# Altium integrated library QuickLogic pASIC 2.IntLib: 96 symbols (part 6 of 7)
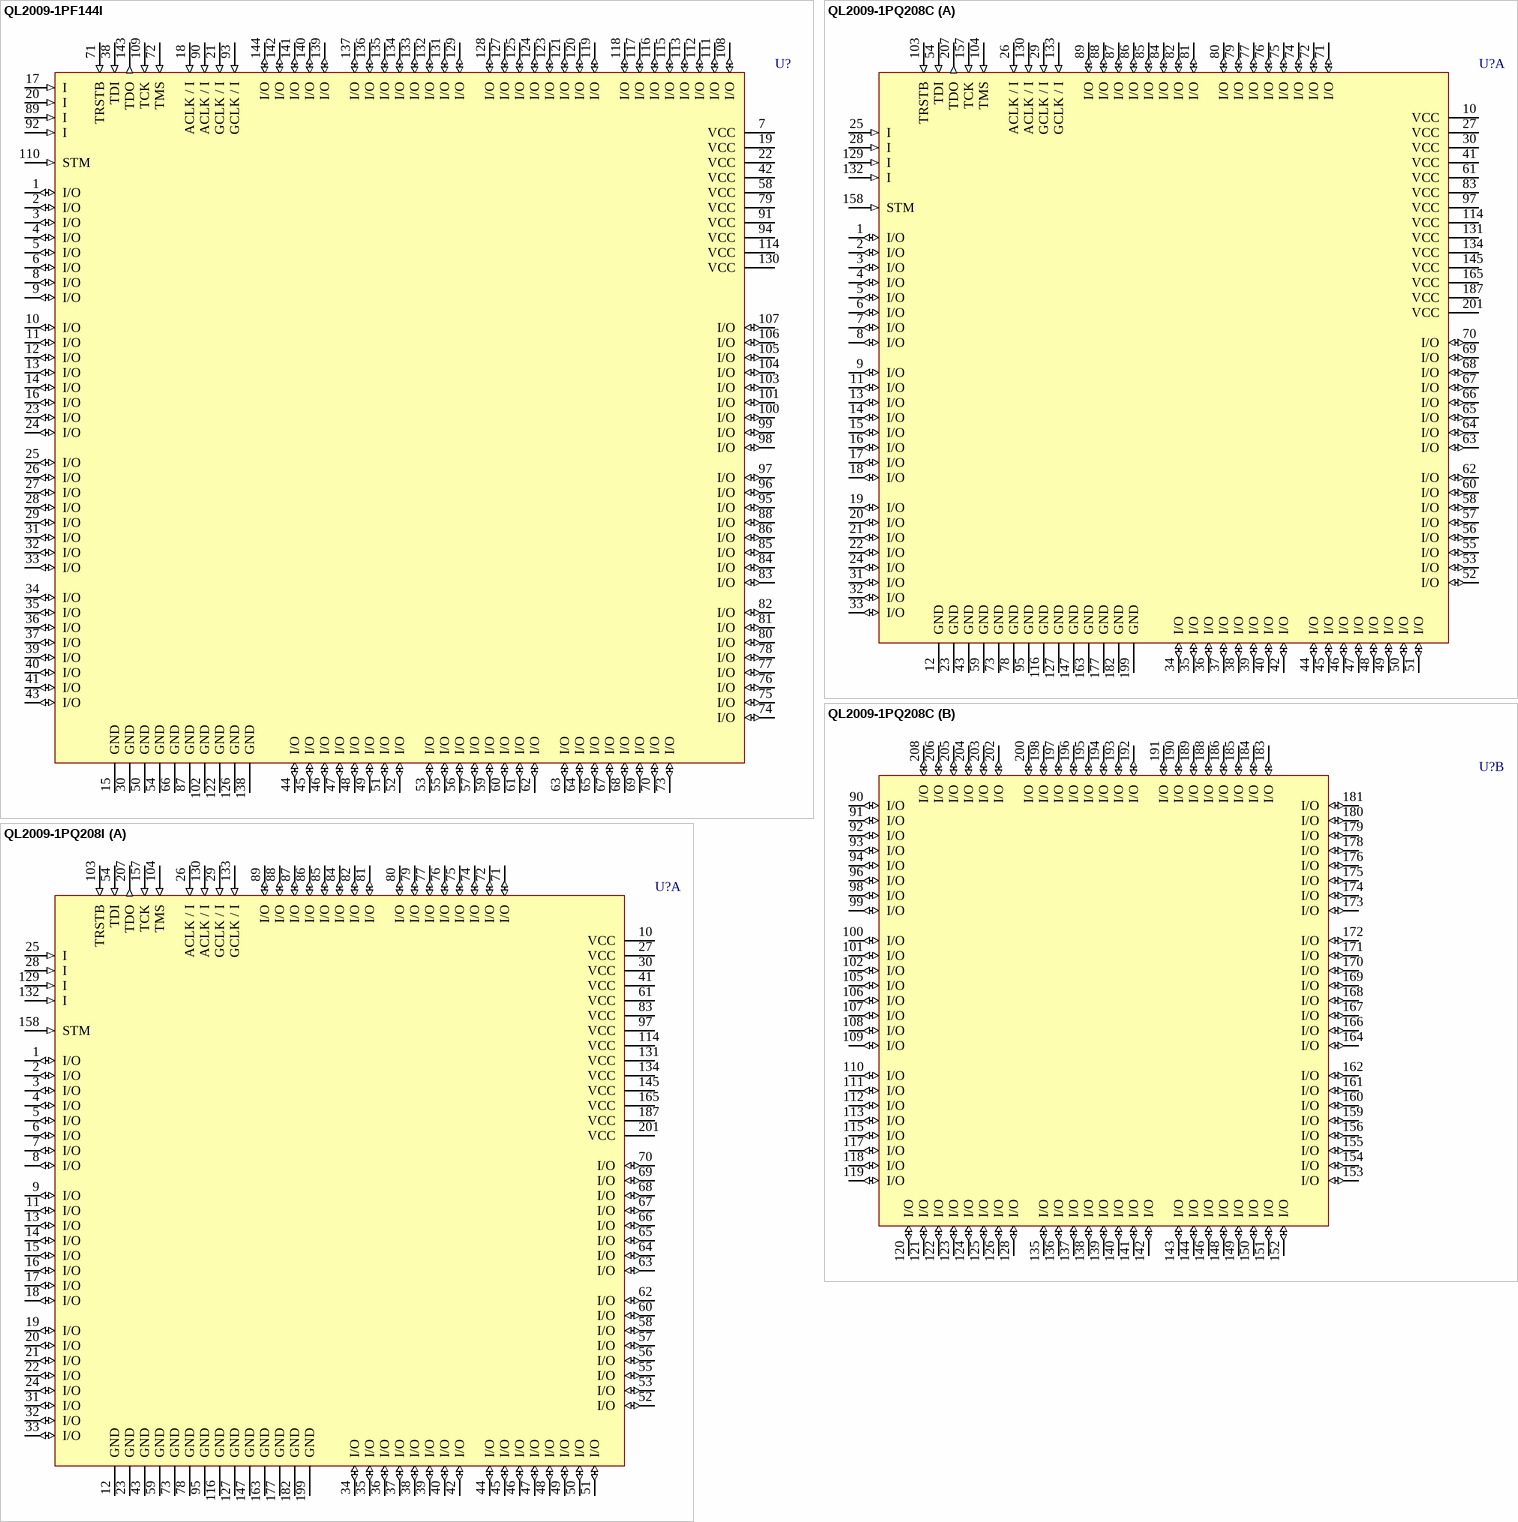
[diagram p47: symbols QL2009-1PF144I to QL2009-1PQ208I]

## QL2009-1PF144I
designator U?
3.3V and 5.0V FPGA, 118 I/Os Max; Published: 21-May-2003; LatestRevisionDate: 13-Apr-2006; LatestRevisionNote: IPC-7351 Footprint Added.; DatasheetVersion: Rev. C; PackageVersion: Feb-1992; PackageReference: PF144; Publisher: Altium Limited; PackageDescription: 144-Pin Thin Plastic Quad Flat Pack 0.5 mm Pitch; ComponentLink1Description: Manufacturer Link; ComponentLink1URL: http://www.quicklogic.com/; ComponentLink2Description: Datasheet; ComponentLink2URL: http://www.quicklogic.com/images/QL2009_DS.pdf; ComponentLink3Description: Discontinuation Notice; ComponentLink3URL: http://www.quicklogic.com/images/EOL_Letter_General.pdf
footprint PF144_N (Thin QFP, 144-Leads, Body 20x20mm, Pitch 0.5mm, IPC Medium Density)
footprint PF144_L (Thin QFP, 144-Leads, Body 20x20mm, Pitch 0.5mm, IPC High Density)
footprint PF144_M (Thin QFP, 144-Leads, Body 20x20mm, Pitch 0.5mm, IPC Low Density)
3D model QL2009-PF144 (144-Pin Thin Plastic Quad Flat Pack 0.5 mm Pitch)
pins: 1 I/O (io), 2 I/O (io), 3 I/O (io), 4 I/O (io), 5 I/O (io), 6 I/O (io), 7 VCC (power), 8 I/O (io), 9 I/O (io), 10 I/O (io), 11 I/O (io), 12 I/O (io), 13 I/O (io), 14 I/O (io), 15 GND (power), 16 I/O (io), 17 I (in), 18 ACLK / I (in), 19 VCC (power), 20 I (in), 21 GCLK / I (in), 22 VCC (power), 23 I/O (io), 24 I/O (io), 25 I/O (io), 26 I/O (io), 27 I/O (io), 28 I/O (io), 29 I/O (io), 30 GND (power), 31 I/O (io), 32 I/O (io), 33 I/O (io), 34 I/O (io), 35 I/O (io), 36 I/O (io), 37 I/O (io), 38 TDI (in), 39 I/O (io), 40 I/O (io), 41 I/O (io), 42 VCC (power), 43 I/O (io), 44 I/O (io), 45 I/O (io), 46 I/O (io), 47 I/O (io), 48 I/O (io), 49 I/O (io), 50 GND (power), 51 I/O (io), 52 I/O (io), 53 I/O (io), 54 GND (power), 55 I/O (io), 56 I/O (io), 57 I/O (io), 58 VCC (power), 59 I/O (io), 60 I/O (io), 61 I/O (io), 62 I/O (io), 63 I/O (io), 64 I/O (io), 65 I/O (io), 66 GND (power), 67 I/O (io), 68 I/O (io), 69 I/O (io), 70 I/O (io), 71 TRSTB (in), 72 TMS (in), 73 I/O (io), 74 I/O (io), 75 I/O (io), 76 I/O (io), 77 I/O (io), 78 I/O (io), 79 VCC (power), 80 I/O (io), 81 I/O (io), 82 I/O (io), 83 I/O (io), 84 I/O (io), 85 I/O (io), 86 I/O (io), 87 GND (power), 88 I/O (io), 89 I (in), 90 ACLK / I (in), 91 VCC (power), 92 I (in), 93 GCLK / I (in), 94 VCC (power), 95 I/O (io), 96 I/O (io), 97 I/O (io), 98 I/O (io), 99 I/O (io), 100 I/O (io), 101 I/O (io), 102 GND (power), 103 I/O (io), 104 I/O (io), 105 I/O (io), 106 I/O (io), 107 I/O (io), 108 I/O (io), 109 TCK (in), 110 STM (in), 111 I/O (io), 112 I/O (io), 113 I/O (io), 114 VCC (power), 115 I/O (io), 116 I/O (io), 117 I/O (io), 118 I/O (io), 119 I/O (io), 120 I/O (io), 121 I/O (io), 122 GND (power), 123 I/O (io), 124 I/O (io), 125 I/O (io), 126 GND (power), 127 I/O (io), 128 I/O (io), 129 I/O (io), 130 VCC (power), 131 I/O (io), 132 I/O (io), 133 I/O (io), 134 I/O (io), 135 I/O (io), 136 I/O (io), 137 I/O (io), 138 GND (power), 139 I/O (io), 140 I/O (io), 141 I/O (io), 142 I/O (io), 143 TDO (out), 144 I/O (io)

## QL2009-1PQ208C
designator U?
3.3V and 5.0V FPGA, 174 I/Os Max; Published: 21-May-2003; LatestRevisionDate: 13-Apr-2006; LatestRevisionNote: IPC-7351 Footprint Added.; DatasheetVersion: Rev. C; PackageVersion: Feb-1995; PackageReference: PQ208; Publisher: Altium Limited; PackageDescription: 208-Pin Shrink Quad Flat Pack 0.5 mm Pitch; ComponentLink1Description: Manufacturer Link; ComponentLink1URL: http://www.quicklogic.com/; ComponentLink2Description: Datasheet; ComponentLink2URL: http://www.quicklogic.com/images/QL2009_DS.pdf; ComponentLink3Description: Discontinuation Notice; ComponentLink3URL: http://www.quicklogic.com/images/EOL_Letter_General.pdf
footprint PQ208_N (Shrink QFP, 208-Leads, Body 28x28mm, Pitch 0.5mm, IPC Medium Density)
footprint PQ208_L (Shrink QFP, 208-Leads, Body 28x28mm, Pitch 0.5mm, IPC High Density)
footprint PQ208_M (Shrink QFP, 208-Leads, Body 28x28mm, Pitch 0.5mm, IPC Low Density)
3D model QL2009-PQ208 (208-Pin Shrink Quad Flat Pack 0.5 mm Pitch)
part A pins: 1 I/O (io), 2 I/O (io), 3 I/O (io), 4 I/O (io), 5 I/O (io), 6 I/O (io), 7 I/O (io), 8 I/O (io), 9 I/O (io), 10 VCC (power), 11 I/O (io), 12 GND (power), 13 I/O (io), 14 I/O (io), 15 I/O (io), 16 I/O (io), 17 I/O (io), 18 I/O (io), 19 I/O (io), 20 I/O (io), 21 I/O (io), 22 I/O (io), 23 GND (power), 24 I/O (io), 25 I (in), 26 ACLK / I (in), 27 VCC (power), 28 I (in), 29 GCLK / I (in), 30 VCC (power), 31 I/O (io), 32 I/O (io), 33 I/O (io), 34 I/O (io), 35 I/O (io), 36 I/O (io), 37 I/O (io), 38 I/O (io), 39 I/O (io), 40 I/O (io), 41 VCC (power), 42 I/O (io), 43 GND (power), 44 I/O (io), 45 I/O (io), 46 I/O (io), 47 I/O (io), 48 I/O (io), 49 I/O (io), 50 I/O (io), 51 I/O (io), 52 I/O (io), 53 I/O (io), 54 TDI (in), 55 I/O (io), 56 I/O (io), 57 I/O (io), 58 I/O (io), 59 GND (power), 60 I/O (io), 61 VCC (power), 62 I/O (io), 63 I/O (io), 64 I/O (io), 65 I/O (io), 66 I/O (io), 67 I/O (io), 68 I/O (io), 69 I/O (io), 70 I/O (io), 71 I/O (io), 72 I/O (io), 73 GND (power), 74 I/O (io), 75 I/O (io), 76 I/O (io), 77 I/O (io), 78 GND (power), 79 I/O (io), 80 I/O (io), 81 I/O (io), 82 I/O (io), 83 VCC (power), 84 I/O (io), 85 I/O (io), 86 I/O (io), 87 I/O (io), 88 I/O (io), 89 I/O (io), 95 GND (power), 97 VCC (power), 103 TRSTB (in), 104 TMS (in), 114 VCC (power), 116 GND (power), 127 GND (power), 129 I (in), 130 ACLK / I (in), 131 VCC (power), 132 I (in), 133 GCLK / I (in), 134 VCC (power), 145 VCC (power), 147 GND (power), 157 TCK (in), 158 STM (in), 163 GND (power), 165 VCC (power), 177 GND (power), 182 GND (power), 187 VCC (power), 199 GND (power), 201 VCC (power), 207 TDO (out)
part B pins: 90 I/O (io), 91 I/O (io), 92 I/O (io), 93 I/O (io), 94 I/O (io), 96 I/O (io), 98 I/O (io), 99 I/O (io), 100 I/O (io), 101 I/O (io), 102 I/O (io), 105 I/O (io), 106 I/O (io), 107 I/O (io), 108 I/O (io), 109 I/O (io), 110 I/O (io), 111 I/O (io), 112 I/O (io), 113 I/O (io), 115 I/O (io), 117 I/O (io), 118 I/O (io), 119 I/O (io), 120 I/O (io), 121 I/O (io), 122 I/O (io), 123 I/O (io), 124 I/O (io), 125 I/O (io), 126 I/O (io), 128 I/O (io), 135 I/O (io), 136 I/O (io), 137 I/O (io), 138 I/O (io), 139 I/O (io), 140 I/O (io), 141 I/O (io), 142 I/O (io), 143 I/O (io), 144 I/O (io), 146 I/O (io), 148 I/O (io), 149 I/O (io), 150 I/O (io), 151 I/O (io), 152 I/O (io), 153 I/O (io), 154 I/O (io), 155 I/O (io), 156 I/O (io), 159 I/O (io), 160 I/O (io), 161 I/O (io), 162 I/O (io), 164 I/O (io), 166 I/O (io), 167 I/O (io), 168 I/O (io), 169 I/O (io), 170 I/O (io), 171 I/O (io), 172 I/O (io), 173 I/O (io), 174 I/O (io), 175 I/O (io), 176 I/O (io), 178 I/O (io), 179 I/O (io), 180 I/O (io), 181 I/O (io), 183 I/O (io), 184 I/O (io), 185 I/O (io), 186 I/O (io), 188 I/O (io), 189 I/O (io), 190 I/O (io), 191 I/O (io), 192 I/O (io), 193 I/O (io), 194 I/O (io), 195 I/O (io), 196 I/O (io), 197 I/O (io), 198 I/O (io), 200 I/O (io), 202 I/O (io), 203 I/O (io), 204 I/O (io), 205 I/O (io), 206 I/O (io), 208 I/O (io)

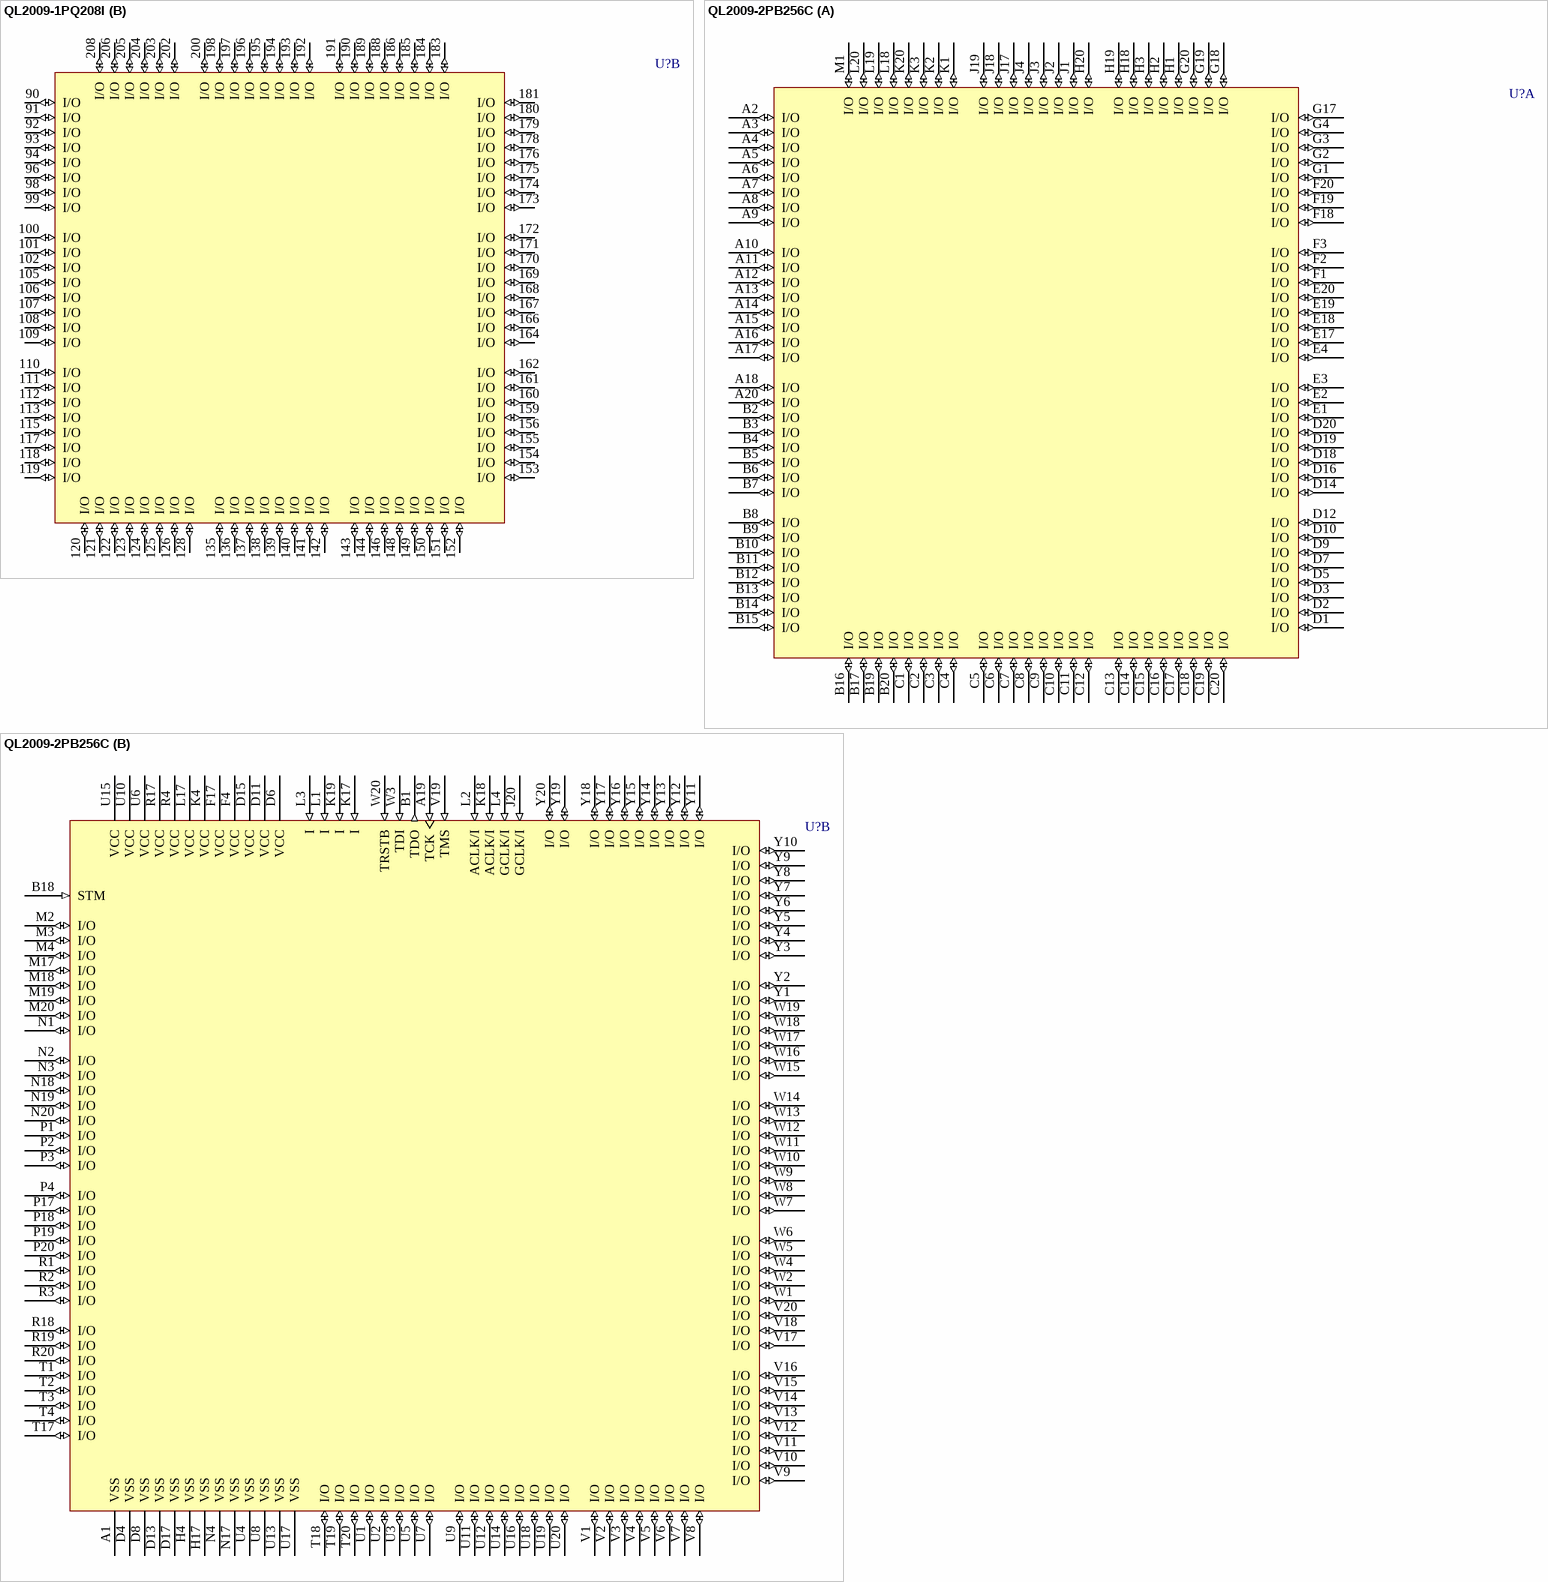
[diagram p34: symbols QL2009-1PQ208I to QL2009-2PB256C]

## QL2009-1PQ208I
designator U?
3.3V and 5.0V FPGA, 174 I/Os Max; Published: 21-May-2003; LatestRevisionDate: 13-Apr-2006; LatestRevisionNote: IPC-7351 Footprint Added.; DatasheetVersion: Rev. C; PackageVersion: Feb-1995; PackageReference: PQ208; Publisher: Altium Limited; PackageDescription: 208-Pin Shrink Quad Flat Pack 0.5 mm Pitch; ComponentLink1Description: Manufacturer Link; ComponentLink1URL: http://www.quicklogic.com/; ComponentLink2Description: Datasheet; ComponentLink2URL: http://www.quicklogic.com/images/QL2009_DS.pdf; ComponentLink3Description: Discontinuation Notice; ComponentLink3URL: http://www.quicklogic.com/images/EOL_Letter_General.pdf
footprint PQ208_N (Shrink QFP, 208-Leads, Body 28x28mm, Pitch 0.5mm, IPC Medium Density)
footprint PQ208_L (Shrink QFP, 208-Leads, Body 28x28mm, Pitch 0.5mm, IPC High Density)
footprint PQ208_M (Shrink QFP, 208-Leads, Body 28x28mm, Pitch 0.5mm, IPC Low Density)
3D model QL2009-PQ208 (208-Pin Shrink Quad Flat Pack 0.5 mm Pitch)
part A pins: 1 I/O (io), 2 I/O (io), 3 I/O (io), 4 I/O (io), 5 I/O (io), 6 I/O (io), 7 I/O (io), 8 I/O (io), 9 I/O (io), 10 VCC (power), 11 I/O (io), 12 GND (power), 13 I/O (io), 14 I/O (io), 15 I/O (io), 16 I/O (io), 17 I/O (io), 18 I/O (io), 19 I/O (io), 20 I/O (io), 21 I/O (io), 22 I/O (io), 23 GND (power), 24 I/O (io), 25 I (in), 26 ACLK / I (in), 27 VCC (power), 28 I (in), 29 GCLK / I (in), 30 VCC (power), 31 I/O (io), 32 I/O (io), 33 I/O (io), 34 I/O (io), 35 I/O (io), 36 I/O (io), 37 I/O (io), 38 I/O (io), 39 I/O (io), 40 I/O (io), 41 VCC (power), 42 I/O (io), 43 GND (power), 44 I/O (io), 45 I/O (io), 46 I/O (io), 47 I/O (io), 48 I/O (io), 49 I/O (io), 50 I/O (io), 51 I/O (io), 52 I/O (io), 53 I/O (io), 54 TDI (in), 55 I/O (io), 56 I/O (io), 57 I/O (io), 58 I/O (io), 59 GND (power), 60 I/O (io), 61 VCC (power), 62 I/O (io), 63 I/O (io), 64 I/O (io), 65 I/O (io), 66 I/O (io), 67 I/O (io), 68 I/O (io), 69 I/O (io), 70 I/O (io), 71 I/O (io), 72 I/O (io), 73 GND (power), 74 I/O (io), 75 I/O (io), 76 I/O (io), 77 I/O (io), 78 GND (power), 79 I/O (io), 80 I/O (io), 81 I/O (io), 82 I/O (io), 83 VCC (power), 84 I/O (io), 85 I/O (io), 86 I/O (io), 87 I/O (io), 88 I/O (io), 89 I/O (io), 95 GND (power), 97 VCC (power), 103 TRSTB (in), 104 TMS (in), 114 VCC (power), 116 GND (power), 127 GND (power), 129 I (in), 130 ACLK / I (in), 131 VCC (power), 132 I (in), 133 GCLK / I (in), 134 VCC (power), 145 VCC (power), 147 GND (power), 157 TCK (in), 158 STM (in), 163 GND (power), 165 VCC (power), 177 GND (power), 182 GND (power), 187 VCC (power), 199 GND (power), 201 VCC (power), 207 TDO (out)
part B pins: 90 I/O (io), 91 I/O (io), 92 I/O (io), 93 I/O (io), 94 I/O (io), 96 I/O (io), 98 I/O (io), 99 I/O (io), 100 I/O (io), 101 I/O (io), 102 I/O (io), 105 I/O (io), 106 I/O (io), 107 I/O (io), 108 I/O (io), 109 I/O (io), 110 I/O (io), 111 I/O (io), 112 I/O (io), 113 I/O (io), 115 I/O (io), 117 I/O (io), 118 I/O (io), 119 I/O (io), 120 I/O (io), 121 I/O (io), 122 I/O (io), 123 I/O (io), 124 I/O (io), 125 I/O (io), 126 I/O (io), 128 I/O (io), 135 I/O (io), 136 I/O (io), 137 I/O (io), 138 I/O (io), 139 I/O (io), 140 I/O (io), 141 I/O (io), 142 I/O (io), 143 I/O (io), 144 I/O (io), 146 I/O (io), 148 I/O (io), 149 I/O (io), 150 I/O (io), 151 I/O (io), 152 I/O (io), 153 I/O (io), 154 I/O (io), 155 I/O (io), 156 I/O (io), 159 I/O (io), 160 I/O (io), 161 I/O (io), 162 I/O (io), 164 I/O (io), 166 I/O (io), 167 I/O (io), 168 I/O (io), 169 I/O (io), 170 I/O (io), 171 I/O (io), 172 I/O (io), 173 I/O (io), 174 I/O (io), 175 I/O (io), 176 I/O (io), 178 I/O (io), 179 I/O (io), 180 I/O (io), 181 I/O (io), 183 I/O (io), 184 I/O (io), 185 I/O (io), 186 I/O (io), 188 I/O (io), 189 I/O (io), 190 I/O (io), 191 I/O (io), 192 I/O (io), 193 I/O (io), 194 I/O (io), 195 I/O (io), 196 I/O (io), 197 I/O (io), 198 I/O (io), 200 I/O (io), 202 I/O (io), 203 I/O (io), 204 I/O (io), 205 I/O (io), 206 I/O (io), 208 I/O (io)

## QL2009-2PB256C
designator U?
3.3V and 5.0V FPGA, 225 I/Os Max; Published: 21-May-2003; LatestRevisionDate: 13-Apr-2006; LatestRevisionNote: IPC-7351 Footprint Added.; DatasheetVersion: Rev. C; PackageVersion: Sep-2002; PackageReference: PB256; Publisher: Altium Limited; PackageDescription: 256-Ball Ball Grid Array 1.27 mm Pitch; ComponentLink1Description: Manufacturer Link; ComponentLink1URL: http://www.quicklogic.com/; ComponentLink2Description: Datasheet; ComponentLink2URL: http://www.quicklogic.com/images/QL2009_DS.pdf; ComponentLink3Description: Discontinuation Notice; ComponentLink3URL: http://www.quicklogic.com/images/EOL_Letter_General.pdf
footprint PB256 (BGA, 256-Leads, Body 27x27mm, Pitch 1.27mm)
3D model QL2009-PB256 (256-Ball Ball Grid Array 1.27 mm Pitch)
part A pins: A2 I/O (io), A3 I/O (io), A4 I/O (io), A5 I/O (io), A6 I/O (io), A7 I/O (io), A8 I/O (io), A9 I/O (io), A10 I/O (io), A11 I/O (io), A12 I/O (io), A13 I/O (io), A14 I/O (io), A15 I/O (io), A16 I/O (io), A17 I/O (io), A18 I/O (io), A20 I/O (io), B2 I/O (io), B3 I/O (io), B4 I/O (io), B5 I/O (io), B6 I/O (io), B7 I/O (io), B8 I/O (io), B9 I/O (io), B10 I/O (io), B11 I/O (io), B12 I/O (io), B13 I/O (io), B14 I/O (io), B15 I/O (io), B16 I/O (io), B17 I/O (io), B19 I/O (io), B20 I/O (io), C1 I/O (io), C2 I/O (io), C3 I/O (io), C4 I/O (io), C5 I/O (io), C6 I/O (io), C7 I/O (io), C8 I/O (io), C9 I/O (io), C10 I/O (io), C11 I/O (io), C12 I/O (io), C13 I/O (io), C14 I/O (io), C15 I/O (io), C16 I/O (io), C17 I/O (io), C18 I/O (io), C19 I/O (io), C20 I/O (io), D1 I/O (io), D2 I/O (io), D3 I/O (io), D5 I/O (io), D7 I/O (io), D9 I/O (io), D10 I/O (io), D12 I/O (io), D14 I/O (io), D16 I/O (io), D18 I/O (io), D19 I/O (io), D20 I/O (io), E1 I/O (io), E2 I/O (io), E3 I/O (io), E4 I/O (io), E17 I/O (io), E18 I/O (io), E19 I/O (io), E20 I/O (io), F1 I/O (io), F2 I/O (io), F3 I/O (io), F18 I/O (io), F19 I/O (io), F20 I/O (io), G1 I/O (io), G2 I/O (io), G3 I/O (io), G4 I/O (io), G17 I/O (io), G18 I/O (io), G19 I/O (io), G20 I/O (io), H1 I/O (io), H2 I/O (io), H3 I/O (io), H18 I/O (io), H19 I/O (io), H20 I/O (io), J1 I/O (io), J2 I/O (io), J3 I/O (io), J4 I/O (io), J17 I/O (io), J18 I/O (io), J19 I/O (io), K1 I/O (io), K2 I/O (io), K3 I/O (io), K20 I/O (io), L18 I/O (io), L19 I/O (io), L20 I/O (io), M1 I/O (io)
part B pins: A1 VSS (power), A19 TCK (in), B1 TDO (out), B18 STM (in), D4 VSS (power), D6 VCC (power), D8 VSS (power), D11 VCC (power), D13 VSS (power), D15 VCC (power), D17 VSS (power), F4 VCC (power), F17 VCC (power), H4 VSS (power), H17 VSS (power), J20 GCLK/I (in), K4 VCC (power), K17 I (in), K18 ACLK/I (in), K19 I (in), L1 I (in), L2 ACLK/I (in), L3 I (in), L4 GCLK/I (in), L17 VCC (power), M2 I/O (io), M3 I/O (io), M4 I/O (io), M17 I/O (io), M18 I/O (io), M19 I/O (io), M20 I/O (io), N1 I/O (io), N2 I/O (io), N3 I/O (io), N4 VSS (power), N17 VSS (power), N18 I/O (io), N19 I/O (io), N20 I/O (io), P1 I/O (io), P2 I/O (io), P3 I/O (io), P4 I/O (io), P17 I/O (io), P18 I/O (io), P19 I/O (io), P20 I/O (io), R1 I/O (io), R2 I/O (io), R3 I/O (io), R4 VCC (power), R17 VCC (power), R18 I/O (io), R19 I/O (io), R20 I/O (io), T1 I/O (io), T2 I/O (io), T3 I/O (io), T4 I/O (io), T17 I/O (io), T18 I/O (io), T19 I/O (io), T20 I/O (io), U1 I/O (io), U2 I/O (io), U3 I/O (io), U4 VSS (power), U5 I/O (io), U6 VCC (power), U7 I/O (io), U8 VSS (power), U9 I/O (io), U10 VCC (power), U11 I/O (io), U12 I/O (io), U13 VSS (power), U14 I/O (io), U15 VCC (power), U16 I/O (io), U17 VSS (power), U18 I/O (io), U19 I/O (io), U20 I/O (io), V1 I/O (io), V2 I/O (io), V3 I/O (io), V4 I/O (io), V5 I/O (io), V6 I/O (io), V7 I/O (io), V8 I/O (io), V9 I/O (io), V10 I/O (io), V11 I/O (io), V12 I/O (io), V13 I/O (io), V14 I/O (io), V15 I/O (io), V16 I/O (io), V17 I/O (io), V18 I/O (io), V19 TMS (in), V20 I/O (io), W1 I/O (io), W2 I/O (io), W3 TDI (in), W4 I/O (io), W5 I/O (io), W6 I/O (io), W7 I/O (io), W8 I/O (io), W9 I/O (io), W10 I/O (io), W11 I/O (io), W12 I/O (io), W13 I/O (io), W14 I/O (io), W15 I/O (io), W16 I/O (io), W17 I/O (io), W18 I/O (io), W19 I/O (io), W20 TRSTB (in), Y1 I/O (io), Y2 I/O (io), Y3 I/O (io), Y4 I/O (io), Y5 I/O (io), Y6 I/O (io), Y7 I/O (io), Y8 I/O (io), Y9 I/O (io), Y10 I/O (io), Y11 I/O (io), Y12 I/O (io), Y13 I/O (io), Y14 I/O (io), Y15 I/O (io), Y16 I/O (io), Y17 I/O (io), Y18 I/O (io), Y19 I/O (io), Y20 I/O (io)

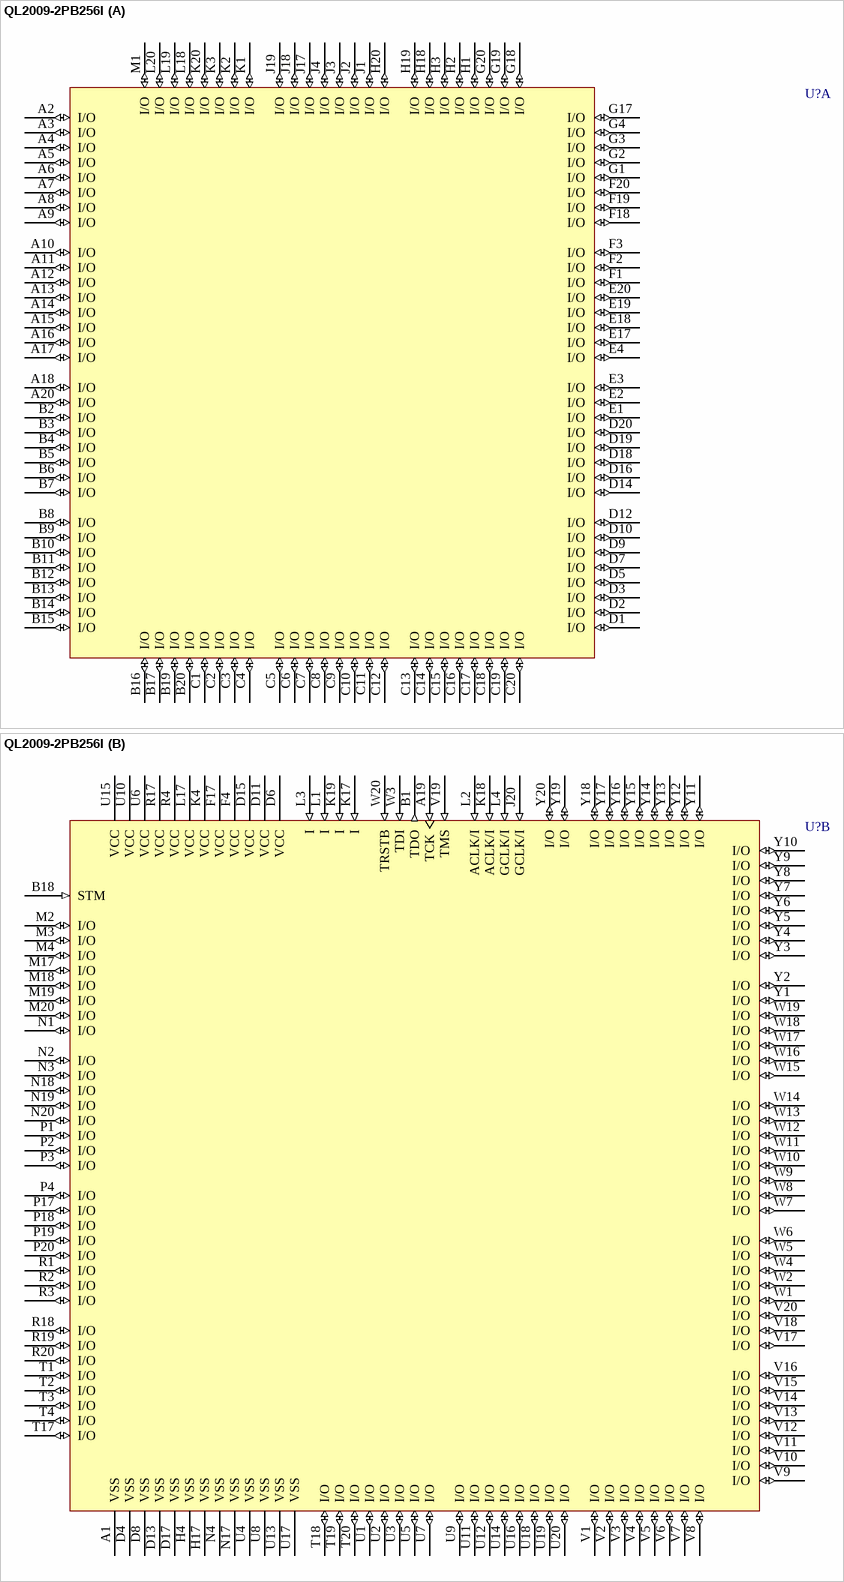
[diagram p35: symbol QL2009-2PB256I]

## QL2009-2PB256I
designator U?
3.3V and 5.0V FPGA, 225 I/Os Max; Published: 21-May-2003; LatestRevisionDate: 13-Apr-2006; LatestRevisionNote: IPC-7351 Footprint Added.; DatasheetVersion: Rev. C; PackageVersion: Sep-2002; PackageReference: PB256; Publisher: Altium Limited; PackageDescription: 256-Ball Ball Grid Array 1.27 mm Pitch; ComponentLink1Description: Manufacturer Link; ComponentLink1URL: http://www.quicklogic.com/; ComponentLink2Description: Datasheet; ComponentLink2URL: http://www.quicklogic.com/images/QL2009_DS.pdf; ComponentLink3Description: Discontinuation Notice; ComponentLink3URL: http://www.quicklogic.com/images/EOL_Letter_General.pdf
footprint PB256 (BGA, 256-Leads, Body 27x27mm, Pitch 1.27mm)
3D model QL2009-PB256 (256-Ball Ball Grid Array 1.27 mm Pitch)
part A pins: A2 I/O (io), A3 I/O (io), A4 I/O (io), A5 I/O (io), A6 I/O (io), A7 I/O (io), A8 I/O (io), A9 I/O (io), A10 I/O (io), A11 I/O (io), A12 I/O (io), A13 I/O (io), A14 I/O (io), A15 I/O (io), A16 I/O (io), A17 I/O (io), A18 I/O (io), A20 I/O (io), B2 I/O (io), B3 I/O (io), B4 I/O (io), B5 I/O (io), B6 I/O (io), B7 I/O (io), B8 I/O (io), B9 I/O (io), B10 I/O (io), B11 I/O (io), B12 I/O (io), B13 I/O (io), B14 I/O (io), B15 I/O (io), B16 I/O (io), B17 I/O (io), B19 I/O (io), B20 I/O (io), C1 I/O (io), C2 I/O (io), C3 I/O (io), C4 I/O (io), C5 I/O (io), C6 I/O (io), C7 I/O (io), C8 I/O (io), C9 I/O (io), C10 I/O (io), C11 I/O (io), C12 I/O (io), C13 I/O (io), C14 I/O (io), C15 I/O (io), C16 I/O (io), C17 I/O (io), C18 I/O (io), C19 I/O (io), C20 I/O (io), D1 I/O (io), D2 I/O (io), D3 I/O (io), D5 I/O (io), D7 I/O (io), D9 I/O (io), D10 I/O (io), D12 I/O (io), D14 I/O (io), D16 I/O (io), D18 I/O (io), D19 I/O (io), D20 I/O (io), E1 I/O (io), E2 I/O (io), E3 I/O (io), E4 I/O (io), E17 I/O (io), E18 I/O (io), E19 I/O (io), E20 I/O (io), F1 I/O (io), F2 I/O (io), F3 I/O (io), F18 I/O (io), F19 I/O (io), F20 I/O (io), G1 I/O (io), G2 I/O (io), G3 I/O (io), G4 I/O (io), G17 I/O (io), G18 I/O (io), G19 I/O (io), G20 I/O (io), H1 I/O (io), H2 I/O (io), H3 I/O (io), H18 I/O (io), H19 I/O (io), H20 I/O (io), J1 I/O (io), J2 I/O (io), J3 I/O (io), J4 I/O (io), J17 I/O (io), J18 I/O (io), J19 I/O (io), K1 I/O (io), K2 I/O (io), K3 I/O (io), K20 I/O (io), L18 I/O (io), L19 I/O (io), L20 I/O (io), M1 I/O (io)
part B pins: A1 VSS (power), A19 TCK (in), B1 TDO (out), B18 STM (in), D4 VSS (power), D6 VCC (power), D8 VSS (power), D11 VCC (power), D13 VSS (power), D15 VCC (power), D17 VSS (power), F4 VCC (power), F17 VCC (power), H4 VSS (power), H17 VSS (power), J20 GCLK/I (in), K4 VCC (power), K17 I (in), K18 ACLK/I (in), K19 I (in), L1 I (in), L2 ACLK/I (in), L3 I (in), L4 GCLK/I (in), L17 VCC (power), M2 I/O (io), M3 I/O (io), M4 I/O (io), M17 I/O (io), M18 I/O (io), M19 I/O (io), M20 I/O (io), N1 I/O (io), N2 I/O (io), N3 I/O (io), N4 VSS (power), N17 VSS (power), N18 I/O (io), N19 I/O (io), N20 I/O (io), P1 I/O (io), P2 I/O (io), P3 I/O (io), P4 I/O (io), P17 I/O (io), P18 I/O (io), P19 I/O (io), P20 I/O (io), R1 I/O (io), R2 I/O (io), R3 I/O (io), R4 VCC (power), R17 VCC (power), R18 I/O (io), R19 I/O (io), R20 I/O (io), T1 I/O (io), T2 I/O (io), T3 I/O (io), T4 I/O (io), T17 I/O (io), T18 I/O (io), T19 I/O (io), T20 I/O (io), U1 I/O (io), U2 I/O (io), U3 I/O (io), U4 VSS (power), U5 I/O (io), U6 VCC (power), U7 I/O (io), U8 VSS (power), U9 I/O (io), U10 VCC (power), U11 I/O (io), U12 I/O (io), U13 VSS (power), U14 I/O (io), U15 VCC (power), U16 I/O (io), U17 VSS (power), U18 I/O (io), U19 I/O (io), U20 I/O (io), V1 I/O (io), V2 I/O (io), V3 I/O (io), V4 I/O (io), V5 I/O (io), V6 I/O (io), V7 I/O (io), V8 I/O (io), V9 I/O (io), V10 I/O (io), V11 I/O (io), V12 I/O (io), V13 I/O (io), V14 I/O (io), V15 I/O (io), V16 I/O (io), V17 I/O (io), V18 I/O (io), V19 TMS (in), V20 I/O (io), W1 I/O (io), W2 I/O (io), W3 TDI (in), W4 I/O (io), W5 I/O (io), W6 I/O (io), W7 I/O (io), W8 I/O (io), W9 I/O (io), W10 I/O (io), W11 I/O (io), W12 I/O (io), W13 I/O (io), W14 I/O (io), W15 I/O (io), W16 I/O (io), W17 I/O (io), W18 I/O (io), W19 I/O (io), W20 TRSTB (in), Y1 I/O (io), Y2 I/O (io), Y3 I/O (io), Y4 I/O (io), Y5 I/O (io), Y6 I/O (io), Y7 I/O (io), Y8 I/O (io), Y9 I/O (io), Y10 I/O (io), Y11 I/O (io), Y12 I/O (io), Y13 I/O (io), Y14 I/O (io), Y15 I/O (io), Y16 I/O (io), Y17 I/O (io), Y18 I/O (io), Y19 I/O (io), Y20 I/O (io)

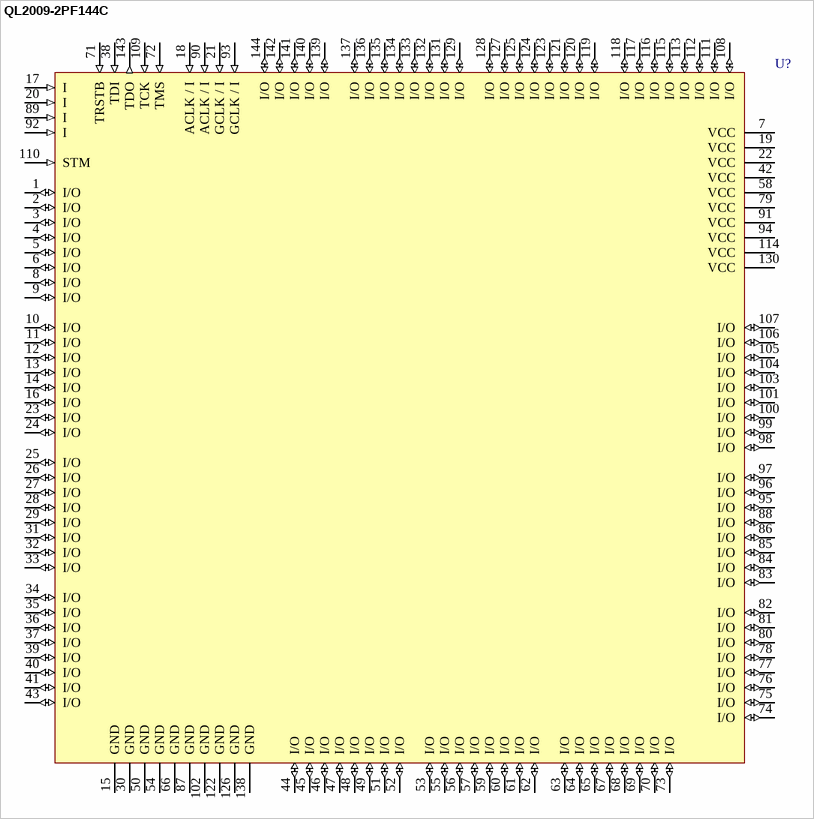
[diagram p36: symbol QL2009-2PF144C]

## QL2009-2PF144C
designator U?
3.3V and 5.0V FPGA, 118 I/Os Max; Published: 21-May-2003; LatestRevisionDate: 13-Apr-2006; LatestRevisionNote: IPC-7351 Footprint Added.; DatasheetVersion: Rev. C; PackageVersion: Feb-1992; PackageReference: PF144; Publisher: Altium Limited; PackageDescription: 144-Pin Thin Plastic Quad Flat Pack 0.5 mm Pitch; ComponentLink1Description: Manufacturer Link; ComponentLink1URL: http://www.quicklogic.com/; ComponentLink2Description: Datasheet; ComponentLink2URL: http://www.quicklogic.com/images/QL2009_DS.pdf; ComponentLink3Description: Discontinuation Notice; ComponentLink3URL: http://www.quicklogic.com/images/EOL_Letter_General.pdf
footprint PF144_N (Thin QFP, 144-Leads, Body 20x20mm, Pitch 0.5mm, IPC Medium Density)
footprint PF144_L (Thin QFP, 144-Leads, Body 20x20mm, Pitch 0.5mm, IPC High Density)
footprint PF144_M (Thin QFP, 144-Leads, Body 20x20mm, Pitch 0.5mm, IPC Low Density)
3D model QL2009-PF144 (144-Pin Thin Plastic Quad Flat Pack 0.5 mm Pitch)
pins: 1 I/O (io), 2 I/O (io), 3 I/O (io), 4 I/O (io), 5 I/O (io), 6 I/O (io), 7 VCC (power), 8 I/O (io), 9 I/O (io), 10 I/O (io), 11 I/O (io), 12 I/O (io), 13 I/O (io), 14 I/O (io), 15 GND (power), 16 I/O (io), 17 I (in), 18 ACLK / I (in), 19 VCC (power), 20 I (in), 21 GCLK / I (in), 22 VCC (power), 23 I/O (io), 24 I/O (io), 25 I/O (io), 26 I/O (io), 27 I/O (io), 28 I/O (io), 29 I/O (io), 30 GND (power), 31 I/O (io), 32 I/O (io), 33 I/O (io), 34 I/O (io), 35 I/O (io), 36 I/O (io), 37 I/O (io), 38 TDI (in), 39 I/O (io), 40 I/O (io), 41 I/O (io), 42 VCC (power), 43 I/O (io), 44 I/O (io), 45 I/O (io), 46 I/O (io), 47 I/O (io), 48 I/O (io), 49 I/O (io), 50 GND (power), 51 I/O (io), 52 I/O (io), 53 I/O (io), 54 GND (power), 55 I/O (io), 56 I/O (io), 57 I/O (io), 58 VCC (power), 59 I/O (io), 60 I/O (io), 61 I/O (io), 62 I/O (io), 63 I/O (io), 64 I/O (io), 65 I/O (io), 66 GND (power), 67 I/O (io), 68 I/O (io), 69 I/O (io), 70 I/O (io), 71 TRSTB (in), 72 TMS (in), 73 I/O (io), 74 I/O (io), 75 I/O (io), 76 I/O (io), 77 I/O (io), 78 I/O (io), 79 VCC (power), 80 I/O (io), 81 I/O (io), 82 I/O (io), 83 I/O (io), 84 I/O (io), 85 I/O (io), 86 I/O (io), 87 GND (power), 88 I/O (io), 89 I (in), 90 ACLK / I (in), 91 VCC (power), 92 I (in), 93 GCLK / I (in), 94 VCC (power), 95 I/O (io), 96 I/O (io), 97 I/O (io), 98 I/O (io), 99 I/O (io), 100 I/O (io), 101 I/O (io), 102 GND (power), 103 I/O (io), 104 I/O (io), 105 I/O (io), 106 I/O (io), 107 I/O (io), 108 I/O (io), 109 TCK (in), 110 STM (in), 111 I/O (io), 112 I/O (io), 113 I/O (io), 114 VCC (power), 115 I/O (io), 116 I/O (io), 117 I/O (io), 118 I/O (io), 119 I/O (io), 120 I/O (io), 121 I/O (io), 122 GND (power), 123 I/O (io), 124 I/O (io), 125 I/O (io), 126 GND (power), 127 I/O (io), 128 I/O (io), 129 I/O (io), 130 VCC (power), 131 I/O (io), 132 I/O (io), 133 I/O (io), 134 I/O (io), 135 I/O (io), 136 I/O (io), 137 I/O (io), 138 GND (power), 139 I/O (io), 140 I/O (io), 141 I/O (io), 142 I/O (io), 143 TDO (out), 144 I/O (io)

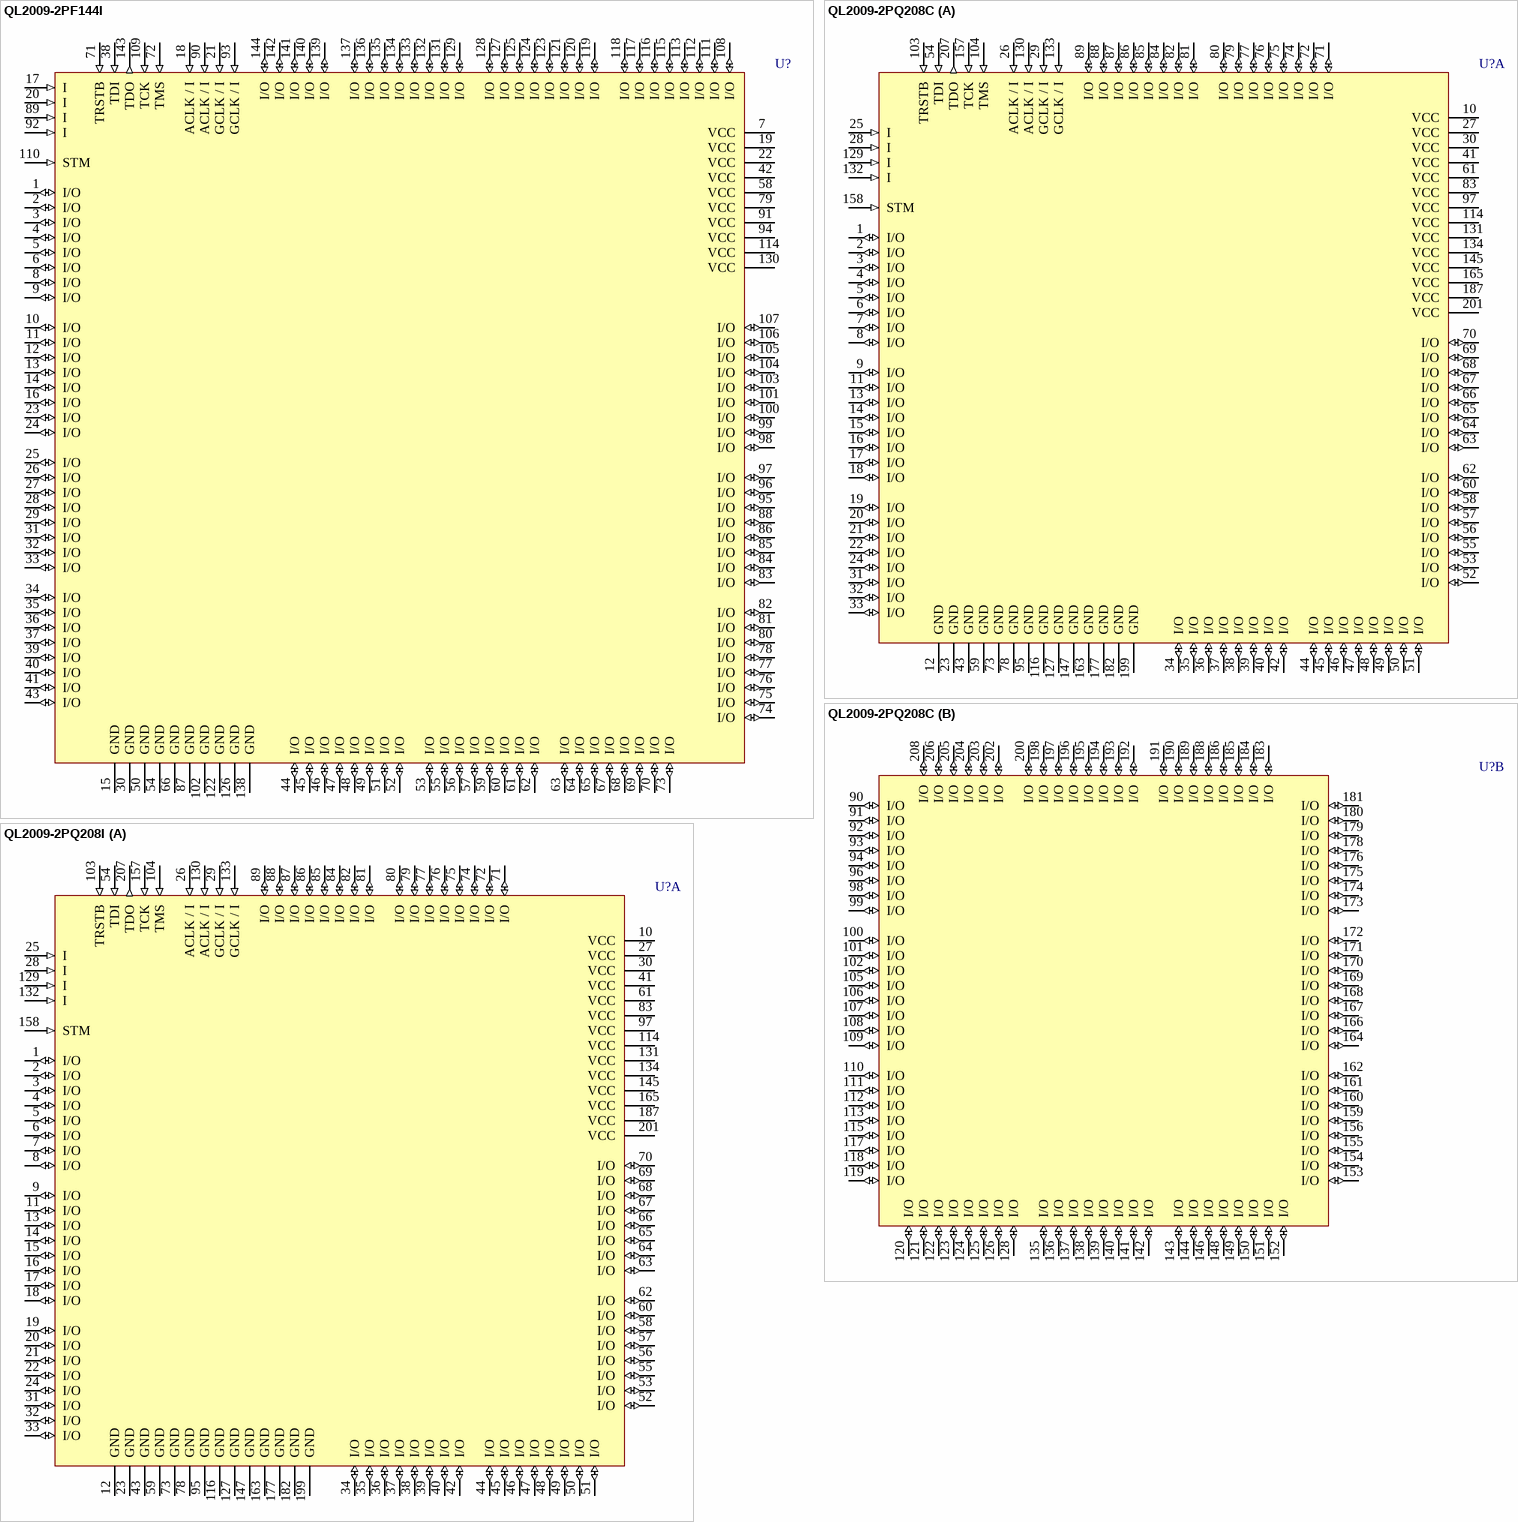
[diagram p37: symbols QL2009-2PF144I to QL2009-2PQ208I]

## QL2009-2PF144I
designator U?
3.3V and 5.0V FPGA, 118 I/Os Max; Published: 21-May-2003; LatestRevisionDate: 13-Apr-2006; LatestRevisionNote: IPC-7351 Footprint Added.; DatasheetVersion: Rev. C; PackageVersion: Feb-1992; PackageReference: PF144; Publisher: Altium Limited; PackageDescription: 144-Pin Thin Plastic Quad Flat Pack 0.5 mm Pitch; ComponentLink1Description: Manufacturer Link; ComponentLink1URL: http://www.quicklogic.com/; ComponentLink2Description: Datasheet; ComponentLink2URL: http://www.quicklogic.com/images/QL2009_DS.pdf; ComponentLink3Description: Discontinuation Notice; ComponentLink3URL: http://www.quicklogic.com/images/EOL_Letter_General.pdf
footprint PF144_N (Thin QFP, 144-Leads, Body 20x20mm, Pitch 0.5mm, IPC Medium Density)
footprint PF144_L (Thin QFP, 144-Leads, Body 20x20mm, Pitch 0.5mm, IPC High Density)
footprint PF144_M (Thin QFP, 144-Leads, Body 20x20mm, Pitch 0.5mm, IPC Low Density)
3D model QL2009-PF144 (144-Pin Thin Plastic Quad Flat Pack 0.5 mm Pitch)
pins: 1 I/O (io), 2 I/O (io), 3 I/O (io), 4 I/O (io), 5 I/O (io), 6 I/O (io), 7 VCC (power), 8 I/O (io), 9 I/O (io), 10 I/O (io), 11 I/O (io), 12 I/O (io), 13 I/O (io), 14 I/O (io), 15 GND (power), 16 I/O (io), 17 I (in), 18 ACLK / I (in), 19 VCC (power), 20 I (in), 21 GCLK / I (in), 22 VCC (power), 23 I/O (io), 24 I/O (io), 25 I/O (io), 26 I/O (io), 27 I/O (io), 28 I/O (io), 29 I/O (io), 30 GND (power), 31 I/O (io), 32 I/O (io), 33 I/O (io), 34 I/O (io), 35 I/O (io), 36 I/O (io), 37 I/O (io), 38 TDI (in), 39 I/O (io), 40 I/O (io), 41 I/O (io), 42 VCC (power), 43 I/O (io), 44 I/O (io), 45 I/O (io), 46 I/O (io), 47 I/O (io), 48 I/O (io), 49 I/O (io), 50 GND (power), 51 I/O (io), 52 I/O (io), 53 I/O (io), 54 GND (power), 55 I/O (io), 56 I/O (io), 57 I/O (io), 58 VCC (power), 59 I/O (io), 60 I/O (io), 61 I/O (io), 62 I/O (io), 63 I/O (io), 64 I/O (io), 65 I/O (io), 66 GND (power), 67 I/O (io), 68 I/O (io), 69 I/O (io), 70 I/O (io), 71 TRSTB (in), 72 TMS (in), 73 I/O (io), 74 I/O (io), 75 I/O (io), 76 I/O (io), 77 I/O (io), 78 I/O (io), 79 VCC (power), 80 I/O (io), 81 I/O (io), 82 I/O (io), 83 I/O (io), 84 I/O (io), 85 I/O (io), 86 I/O (io), 87 GND (power), 88 I/O (io), 89 I (in), 90 ACLK / I (in), 91 VCC (power), 92 I (in), 93 GCLK / I (in), 94 VCC (power), 95 I/O (io), 96 I/O (io), 97 I/O (io), 98 I/O (io), 99 I/O (io), 100 I/O (io), 101 I/O (io), 102 GND (power), 103 I/O (io), 104 I/O (io), 105 I/O (io), 106 I/O (io), 107 I/O (io), 108 I/O (io), 109 TCK (in), 110 STM (in), 111 I/O (io), 112 I/O (io), 113 I/O (io), 114 VCC (power), 115 I/O (io), 116 I/O (io), 117 I/O (io), 118 I/O (io), 119 I/O (io), 120 I/O (io), 121 I/O (io), 122 GND (power), 123 I/O (io), 124 I/O (io), 125 I/O (io), 126 GND (power), 127 I/O (io), 128 I/O (io), 129 I/O (io), 130 VCC (power), 131 I/O (io), 132 I/O (io), 133 I/O (io), 134 I/O (io), 135 I/O (io), 136 I/O (io), 137 I/O (io), 138 GND (power), 139 I/O (io), 140 I/O (io), 141 I/O (io), 142 I/O (io), 143 TDO (out), 144 I/O (io)

## QL2009-2PQ208C
designator U?
3.3V and 5.0V FPGA, 174 I/Os Max; Published: 21-May-2003; LatestRevisionDate: 13-Apr-2006; LatestRevisionNote: IPC-7351 Footprint Added.; DatasheetVersion: Rev. C; PackageVersion: Feb-1995; PackageReference: PQ208; Publisher: Altium Limited; PackageDescription: 208-Pin Shrink Quad Flat Pack 0.5 mm Pitch; ComponentLink1Description: Manufacturer Link; ComponentLink1URL: http://www.quicklogic.com/; ComponentLink2Description: Datasheet; ComponentLink2URL: http://www.quicklogic.com/images/QL2009_DS.pdf; ComponentLink3Description: Discontinuation Notice; ComponentLink3URL: http://www.quicklogic.com/images/EOL_Letter_General.pdf
footprint PQ208_N (Shrink QFP, 208-Leads, Body 28x28mm, Pitch 0.5mm, IPC Medium Density)
footprint PQ208_L (Shrink QFP, 208-Leads, Body 28x28mm, Pitch 0.5mm, IPC High Density)
footprint PQ208_M (Shrink QFP, 208-Leads, Body 28x28mm, Pitch 0.5mm, IPC Low Density)
3D model QL2009-PQ208 (208-Pin Shrink Quad Flat Pack 0.5 mm Pitch)
part A pins: 1 I/O (io), 2 I/O (io), 3 I/O (io), 4 I/O (io), 5 I/O (io), 6 I/O (io), 7 I/O (io), 8 I/O (io), 9 I/O (io), 10 VCC (power), 11 I/O (io), 12 GND (power), 13 I/O (io), 14 I/O (io), 15 I/O (io), 16 I/O (io), 17 I/O (io), 18 I/O (io), 19 I/O (io), 20 I/O (io), 21 I/O (io), 22 I/O (io), 23 GND (power), 24 I/O (io), 25 I (in), 26 ACLK / I (in), 27 VCC (power), 28 I (in), 29 GCLK / I (in), 30 VCC (power), 31 I/O (io), 32 I/O (io), 33 I/O (io), 34 I/O (io), 35 I/O (io), 36 I/O (io), 37 I/O (io), 38 I/O (io), 39 I/O (io), 40 I/O (io), 41 VCC (power), 42 I/O (io), 43 GND (power), 44 I/O (io), 45 I/O (io), 46 I/O (io), 47 I/O (io), 48 I/O (io), 49 I/O (io), 50 I/O (io), 51 I/O (io), 52 I/O (io), 53 I/O (io), 54 TDI (in), 55 I/O (io), 56 I/O (io), 57 I/O (io), 58 I/O (io), 59 GND (power), 60 I/O (io), 61 VCC (power), 62 I/O (io), 63 I/O (io), 64 I/O (io), 65 I/O (io), 66 I/O (io), 67 I/O (io), 68 I/O (io), 69 I/O (io), 70 I/O (io), 71 I/O (io), 72 I/O (io), 73 GND (power), 74 I/O (io), 75 I/O (io), 76 I/O (io), 77 I/O (io), 78 GND (power), 79 I/O (io), 80 I/O (io), 81 I/O (io), 82 I/O (io), 83 VCC (power), 84 I/O (io), 85 I/O (io), 86 I/O (io), 87 I/O (io), 88 I/O (io), 89 I/O (io), 95 GND (power), 97 VCC (power), 103 TRSTB (in), 104 TMS (in), 114 VCC (power), 116 GND (power), 127 GND (power), 129 I (in), 130 ACLK / I (in), 131 VCC (power), 132 I (in), 133 GCLK / I (in), 134 VCC (power), 145 VCC (power), 147 GND (power), 157 TCK (in), 158 STM (in), 163 GND (power), 165 VCC (power), 177 GND (power), 182 GND (power), 187 VCC (power), 199 GND (power), 201 VCC (power), 207 TDO (out)
part B pins: 90 I/O (io), 91 I/O (io), 92 I/O (io), 93 I/O (io), 94 I/O (io), 96 I/O (io), 98 I/O (io), 99 I/O (io), 100 I/O (io), 101 I/O (io), 102 I/O (io), 105 I/O (io), 106 I/O (io), 107 I/O (io), 108 I/O (io), 109 I/O (io), 110 I/O (io), 111 I/O (io), 112 I/O (io), 113 I/O (io), 115 I/O (io), 117 I/O (io), 118 I/O (io), 119 I/O (io), 120 I/O (io), 121 I/O (io), 122 I/O (io), 123 I/O (io), 124 I/O (io), 125 I/O (io), 126 I/O (io), 128 I/O (io), 135 I/O (io), 136 I/O (io), 137 I/O (io), 138 I/O (io), 139 I/O (io), 140 I/O (io), 141 I/O (io), 142 I/O (io), 143 I/O (io), 144 I/O (io), 146 I/O (io), 148 I/O (io), 149 I/O (io), 150 I/O (io), 151 I/O (io), 152 I/O (io), 153 I/O (io), 154 I/O (io), 155 I/O (io), 156 I/O (io), 159 I/O (io), 160 I/O (io), 161 I/O (io), 162 I/O (io), 164 I/O (io), 166 I/O (io), 167 I/O (io), 168 I/O (io), 169 I/O (io), 170 I/O (io), 171 I/O (io), 172 I/O (io), 173 I/O (io), 174 I/O (io), 175 I/O (io), 176 I/O (io), 178 I/O (io), 179 I/O (io), 180 I/O (io), 181 I/O (io), 183 I/O (io), 184 I/O (io), 185 I/O (io), 186 I/O (io), 188 I/O (io), 189 I/O (io), 190 I/O (io), 191 I/O (io), 192 I/O (io), 193 I/O (io), 194 I/O (io), 195 I/O (io), 196 I/O (io), 197 I/O (io), 198 I/O (io), 200 I/O (io), 202 I/O (io), 203 I/O (io), 204 I/O (io), 205 I/O (io), 206 I/O (io), 208 I/O (io)

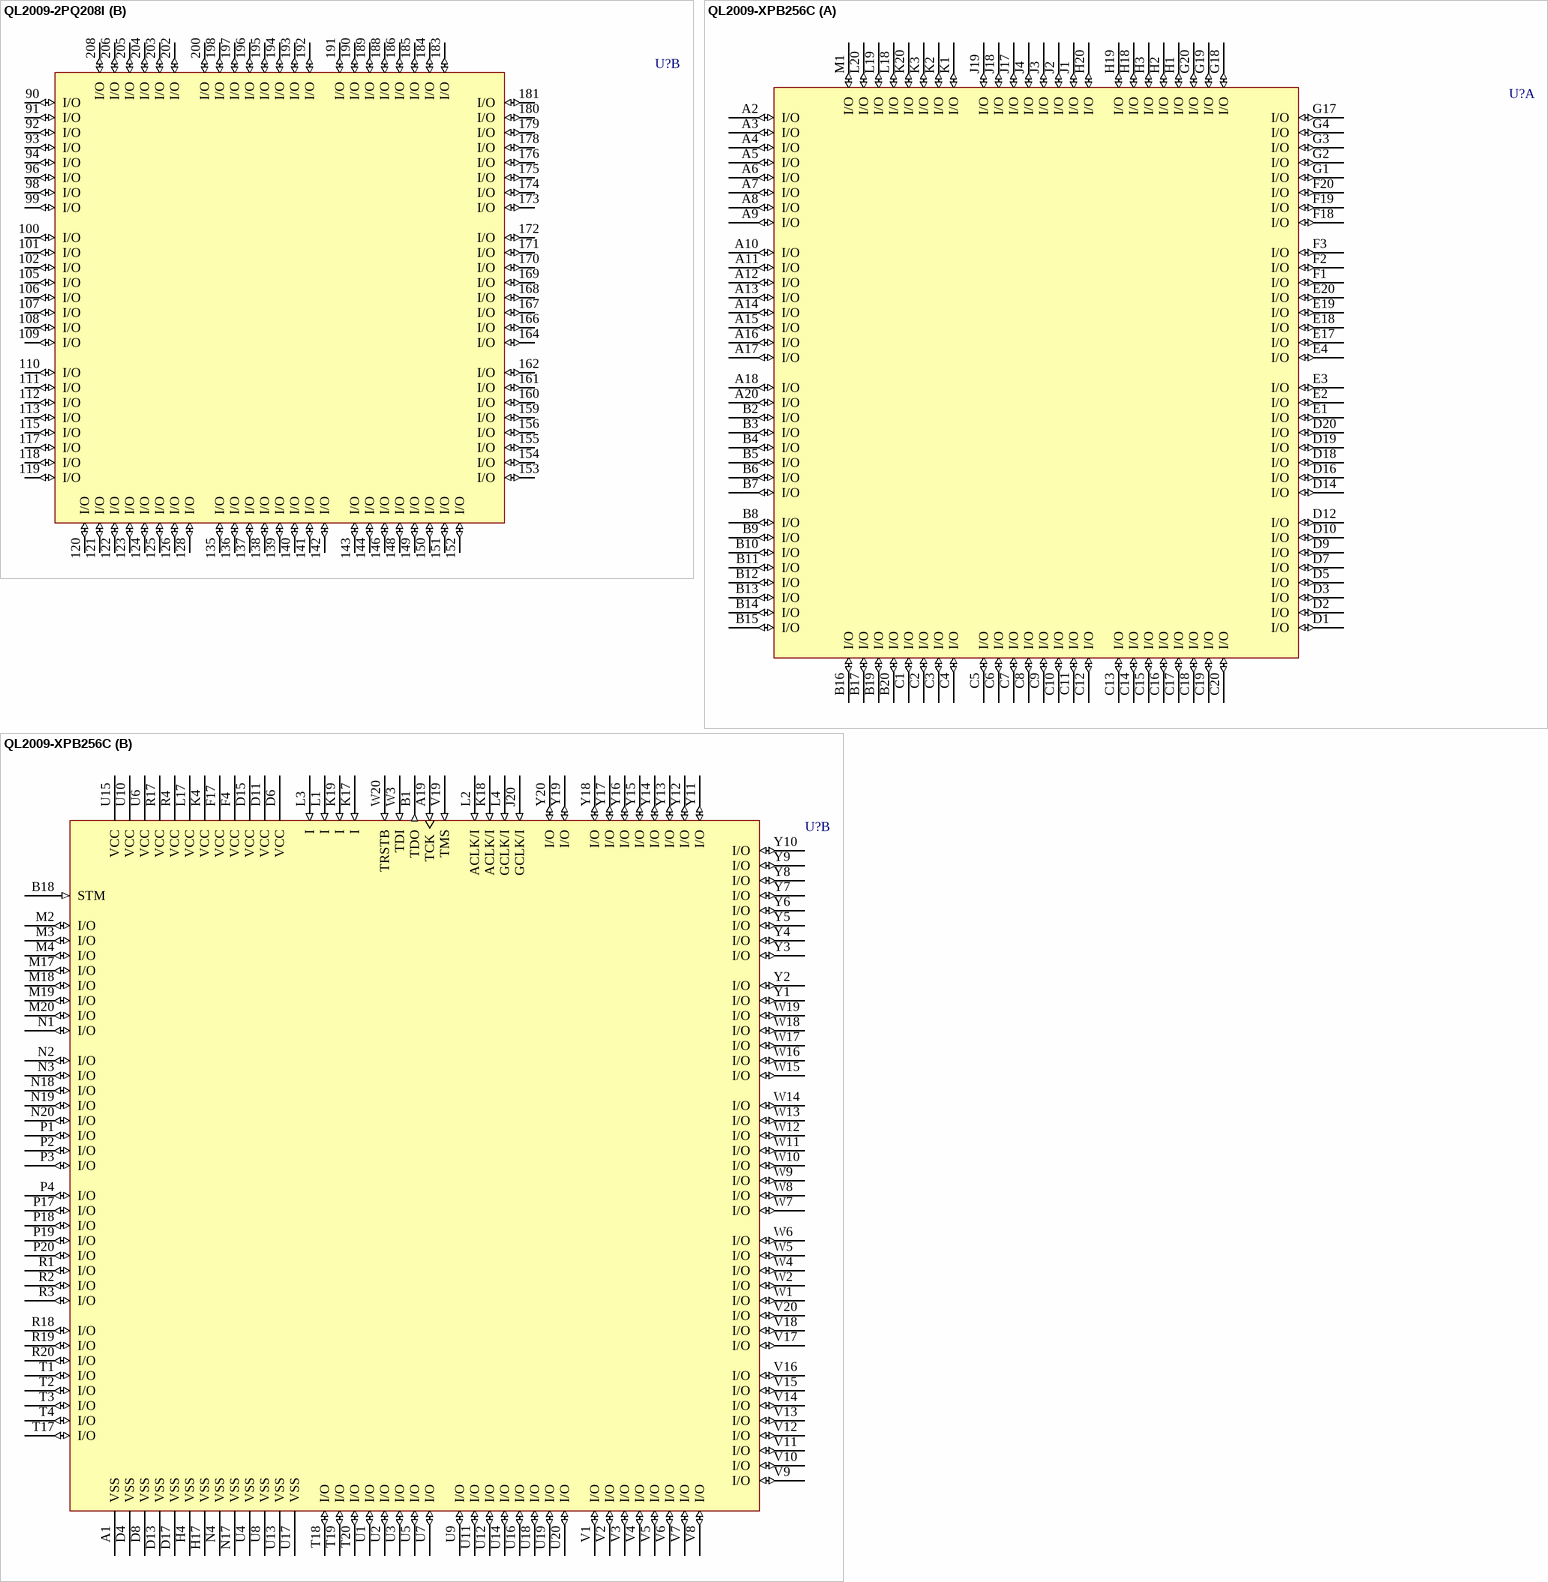
[diagram p38: symbols QL2009-2PQ208I to QL2009-XPB256C]

## QL2009-2PQ208I
designator U?
3.3V and 5.0V FPGA, 174 I/Os Max; Published: 21-May-2003; LatestRevisionDate: 13-Apr-2006; LatestRevisionNote: IPC-7351 Footprint Added.; DatasheetVersion: Rev. C; PackageVersion: Feb-1995; PackageReference: PQ208; Publisher: Altium Limited; PackageDescription: 208-Pin Shrink Quad Flat Pack 0.5 mm Pitch; ComponentLink1Description: Manufacturer Link; ComponentLink1URL: http://www.quicklogic.com/; ComponentLink2Description: Datasheet; ComponentLink2URL: http://www.quicklogic.com/images/QL2009_DS.pdf; ComponentLink3Description: Discontinuation Notice; ComponentLink3URL: http://www.quicklogic.com/images/EOL_Letter_General.pdf
footprint PQ208_N (Shrink QFP, 208-Leads, Body 28x28mm, Pitch 0.5mm, IPC Medium Density)
footprint PQ208_L (Shrink QFP, 208-Leads, Body 28x28mm, Pitch 0.5mm, IPC High Density)
footprint PQ208_M (Shrink QFP, 208-Leads, Body 28x28mm, Pitch 0.5mm, IPC Low Density)
3D model QL2009-PQ208 (208-Pin Shrink Quad Flat Pack 0.5 mm Pitch)
part A pins: 1 I/O (io), 2 I/O (io), 3 I/O (io), 4 I/O (io), 5 I/O (io), 6 I/O (io), 7 I/O (io), 8 I/O (io), 9 I/O (io), 10 VCC (power), 11 I/O (io), 12 GND (power), 13 I/O (io), 14 I/O (io), 15 I/O (io), 16 I/O (io), 17 I/O (io), 18 I/O (io), 19 I/O (io), 20 I/O (io), 21 I/O (io), 22 I/O (io), 23 GND (power), 24 I/O (io), 25 I (in), 26 ACLK / I (in), 27 VCC (power), 28 I (in), 29 GCLK / I (in), 30 VCC (power), 31 I/O (io), 32 I/O (io), 33 I/O (io), 34 I/O (io), 35 I/O (io), 36 I/O (io), 37 I/O (io), 38 I/O (io), 39 I/O (io), 40 I/O (io), 41 VCC (power), 42 I/O (io), 43 GND (power), 44 I/O (io), 45 I/O (io), 46 I/O (io), 47 I/O (io), 48 I/O (io), 49 I/O (io), 50 I/O (io), 51 I/O (io), 52 I/O (io), 53 I/O (io), 54 TDI (in), 55 I/O (io), 56 I/O (io), 57 I/O (io), 58 I/O (io), 59 GND (power), 60 I/O (io), 61 VCC (power), 62 I/O (io), 63 I/O (io), 64 I/O (io), 65 I/O (io), 66 I/O (io), 67 I/O (io), 68 I/O (io), 69 I/O (io), 70 I/O (io), 71 I/O (io), 72 I/O (io), 73 GND (power), 74 I/O (io), 75 I/O (io), 76 I/O (io), 77 I/O (io), 78 GND (power), 79 I/O (io), 80 I/O (io), 81 I/O (io), 82 I/O (io), 83 VCC (power), 84 I/O (io), 85 I/O (io), 86 I/O (io), 87 I/O (io), 88 I/O (io), 89 I/O (io), 95 GND (power), 97 VCC (power), 103 TRSTB (in), 104 TMS (in), 114 VCC (power), 116 GND (power), 127 GND (power), 129 I (in), 130 ACLK / I (in), 131 VCC (power), 132 I (in), 133 GCLK / I (in), 134 VCC (power), 145 VCC (power), 147 GND (power), 157 TCK (in), 158 STM (in), 163 GND (power), 165 VCC (power), 177 GND (power), 182 GND (power), 187 VCC (power), 199 GND (power), 201 VCC (power), 207 TDO (out)
part B pins: 90 I/O (io), 91 I/O (io), 92 I/O (io), 93 I/O (io), 94 I/O (io), 96 I/O (io), 98 I/O (io), 99 I/O (io), 100 I/O (io), 101 I/O (io), 102 I/O (io), 105 I/O (io), 106 I/O (io), 107 I/O (io), 108 I/O (io), 109 I/O (io), 110 I/O (io), 111 I/O (io), 112 I/O (io), 113 I/O (io), 115 I/O (io), 117 I/O (io), 118 I/O (io), 119 I/O (io), 120 I/O (io), 121 I/O (io), 122 I/O (io), 123 I/O (io), 124 I/O (io), 125 I/O (io), 126 I/O (io), 128 I/O (io), 135 I/O (io), 136 I/O (io), 137 I/O (io), 138 I/O (io), 139 I/O (io), 140 I/O (io), 141 I/O (io), 142 I/O (io), 143 I/O (io), 144 I/O (io), 146 I/O (io), 148 I/O (io), 149 I/O (io), 150 I/O (io), 151 I/O (io), 152 I/O (io), 153 I/O (io), 154 I/O (io), 155 I/O (io), 156 I/O (io), 159 I/O (io), 160 I/O (io), 161 I/O (io), 162 I/O (io), 164 I/O (io), 166 I/O (io), 167 I/O (io), 168 I/O (io), 169 I/O (io), 170 I/O (io), 171 I/O (io), 172 I/O (io), 173 I/O (io), 174 I/O (io), 175 I/O (io), 176 I/O (io), 178 I/O (io), 179 I/O (io), 180 I/O (io), 181 I/O (io), 183 I/O (io), 184 I/O (io), 185 I/O (io), 186 I/O (io), 188 I/O (io), 189 I/O (io), 190 I/O (io), 191 I/O (io), 192 I/O (io), 193 I/O (io), 194 I/O (io), 195 I/O (io), 196 I/O (io), 197 I/O (io), 198 I/O (io), 200 I/O (io), 202 I/O (io), 203 I/O (io), 204 I/O (io), 205 I/O (io), 206 I/O (io), 208 I/O (io)

## QL2009-XPB256C
designator U?
3.3V and 5.0V FPGA, 225 I/Os Max; Published: 21-May-2003; LatestRevisionDate: 13-Apr-2006; LatestRevisionNote: IPC-7351 Footprint Added.; DatasheetVersion: Rev. C; PackageVersion: Sep-2002; PackageReference: PB256; Publisher: Altium Limited; PackageDescription: 256-Ball Ball Grid Array 1.27 mm Pitch; ComponentLink1Description: Manufacturer Link; ComponentLink1URL: http://www.quicklogic.com/; ComponentLink2Description: Datasheet; ComponentLink2URL: http://www.quicklogic.com/images/QL2009_DS.pdf; ComponentLink3Description: Discontinuation Notice; ComponentLink3URL: http://www.quicklogic.com/images/EOL_Letter_General.pdf
footprint PB256 (BGA, 256-Leads, Body 27x27mm, Pitch 1.27mm)
3D model QL2009-PB256 (256-Ball Ball Grid Array 1.27 mm Pitch)
part A pins: A2 I/O (io), A3 I/O (io), A4 I/O (io), A5 I/O (io), A6 I/O (io), A7 I/O (io), A8 I/O (io), A9 I/O (io), A10 I/O (io), A11 I/O (io), A12 I/O (io), A13 I/O (io), A14 I/O (io), A15 I/O (io), A16 I/O (io), A17 I/O (io), A18 I/O (io), A20 I/O (io), B2 I/O (io), B3 I/O (io), B4 I/O (io), B5 I/O (io), B6 I/O (io), B7 I/O (io), B8 I/O (io), B9 I/O (io), B10 I/O (io), B11 I/O (io), B12 I/O (io), B13 I/O (io), B14 I/O (io), B15 I/O (io), B16 I/O (io), B17 I/O (io), B19 I/O (io), B20 I/O (io), C1 I/O (io), C2 I/O (io), C3 I/O (io), C4 I/O (io), C5 I/O (io), C6 I/O (io), C7 I/O (io), C8 I/O (io), C9 I/O (io), C10 I/O (io), C11 I/O (io), C12 I/O (io), C13 I/O (io), C14 I/O (io), C15 I/O (io), C16 I/O (io), C17 I/O (io), C18 I/O (io), C19 I/O (io), C20 I/O (io), D1 I/O (io), D2 I/O (io), D3 I/O (io), D5 I/O (io), D7 I/O (io), D9 I/O (io), D10 I/O (io), D12 I/O (io), D14 I/O (io), D16 I/O (io), D18 I/O (io), D19 I/O (io), D20 I/O (io), E1 I/O (io), E2 I/O (io), E3 I/O (io), E4 I/O (io), E17 I/O (io), E18 I/O (io), E19 I/O (io), E20 I/O (io), F1 I/O (io), F2 I/O (io), F3 I/O (io), F18 I/O (io), F19 I/O (io), F20 I/O (io), G1 I/O (io), G2 I/O (io), G3 I/O (io), G4 I/O (io), G17 I/O (io), G18 I/O (io), G19 I/O (io), G20 I/O (io), H1 I/O (io), H2 I/O (io), H3 I/O (io), H18 I/O (io), H19 I/O (io), H20 I/O (io), J1 I/O (io), J2 I/O (io), J3 I/O (io), J4 I/O (io), J17 I/O (io), J18 I/O (io), J19 I/O (io), K1 I/O (io), K2 I/O (io), K3 I/O (io), K20 I/O (io), L18 I/O (io), L19 I/O (io), L20 I/O (io), M1 I/O (io)
part B pins: A1 VSS (power), A19 TCK (in), B1 TDO (out), B18 STM (in), D4 VSS (power), D6 VCC (power), D8 VSS (power), D11 VCC (power), D13 VSS (power), D15 VCC (power), D17 VSS (power), F4 VCC (power), F17 VCC (power), H4 VSS (power), H17 VSS (power), J20 GCLK/I (in), K4 VCC (power), K17 I (in), K18 ACLK/I (in), K19 I (in), L1 I (in), L2 ACLK/I (in), L3 I (in), L4 GCLK/I (in), L17 VCC (power), M2 I/O (io), M3 I/O (io), M4 I/O (io), M17 I/O (io), M18 I/O (io), M19 I/O (io), M20 I/O (io), N1 I/O (io), N2 I/O (io), N3 I/O (io), N4 VSS (power), N17 VSS (power), N18 I/O (io), N19 I/O (io), N20 I/O (io), P1 I/O (io), P2 I/O (io), P3 I/O (io), P4 I/O (io), P17 I/O (io), P18 I/O (io), P19 I/O (io), P20 I/O (io), R1 I/O (io), R2 I/O (io), R3 I/O (io), R4 VCC (power), R17 VCC (power), R18 I/O (io), R19 I/O (io), R20 I/O (io), T1 I/O (io), T2 I/O (io), T3 I/O (io), T4 I/O (io), T17 I/O (io), T18 I/O (io), T19 I/O (io), T20 I/O (io), U1 I/O (io), U2 I/O (io), U3 I/O (io), U4 VSS (power), U5 I/O (io), U6 VCC (power), U7 I/O (io), U8 VSS (power), U9 I/O (io), U10 VCC (power), U11 I/O (io), U12 I/O (io), U13 VSS (power), U14 I/O (io), U15 VCC (power), U16 I/O (io), U17 VSS (power), U18 I/O (io), U19 I/O (io), U20 I/O (io), V1 I/O (io), V2 I/O (io), V3 I/O (io), V4 I/O (io), V5 I/O (io), V6 I/O (io), V7 I/O (io), V8 I/O (io), V9 I/O (io), V10 I/O (io), V11 I/O (io), V12 I/O (io), V13 I/O (io), V14 I/O (io), V15 I/O (io), V16 I/O (io), V17 I/O (io), V18 I/O (io), V19 TMS (in), V20 I/O (io), W1 I/O (io), W2 I/O (io), W3 TDI (in), W4 I/O (io), W5 I/O (io), W6 I/O (io), W7 I/O (io), W8 I/O (io), W9 I/O (io), W10 I/O (io), W11 I/O (io), W12 I/O (io), W13 I/O (io), W14 I/O (io), W15 I/O (io), W16 I/O (io), W17 I/O (io), W18 I/O (io), W19 I/O (io), W20 TRSTB (in), Y1 I/O (io), Y2 I/O (io), Y3 I/O (io), Y4 I/O (io), Y5 I/O (io), Y6 I/O (io), Y7 I/O (io), Y8 I/O (io), Y9 I/O (io), Y10 I/O (io), Y11 I/O (io), Y12 I/O (io), Y13 I/O (io), Y14 I/O (io), Y15 I/O (io), Y16 I/O (io), Y17 I/O (io), Y18 I/O (io), Y19 I/O (io), Y20 I/O (io)

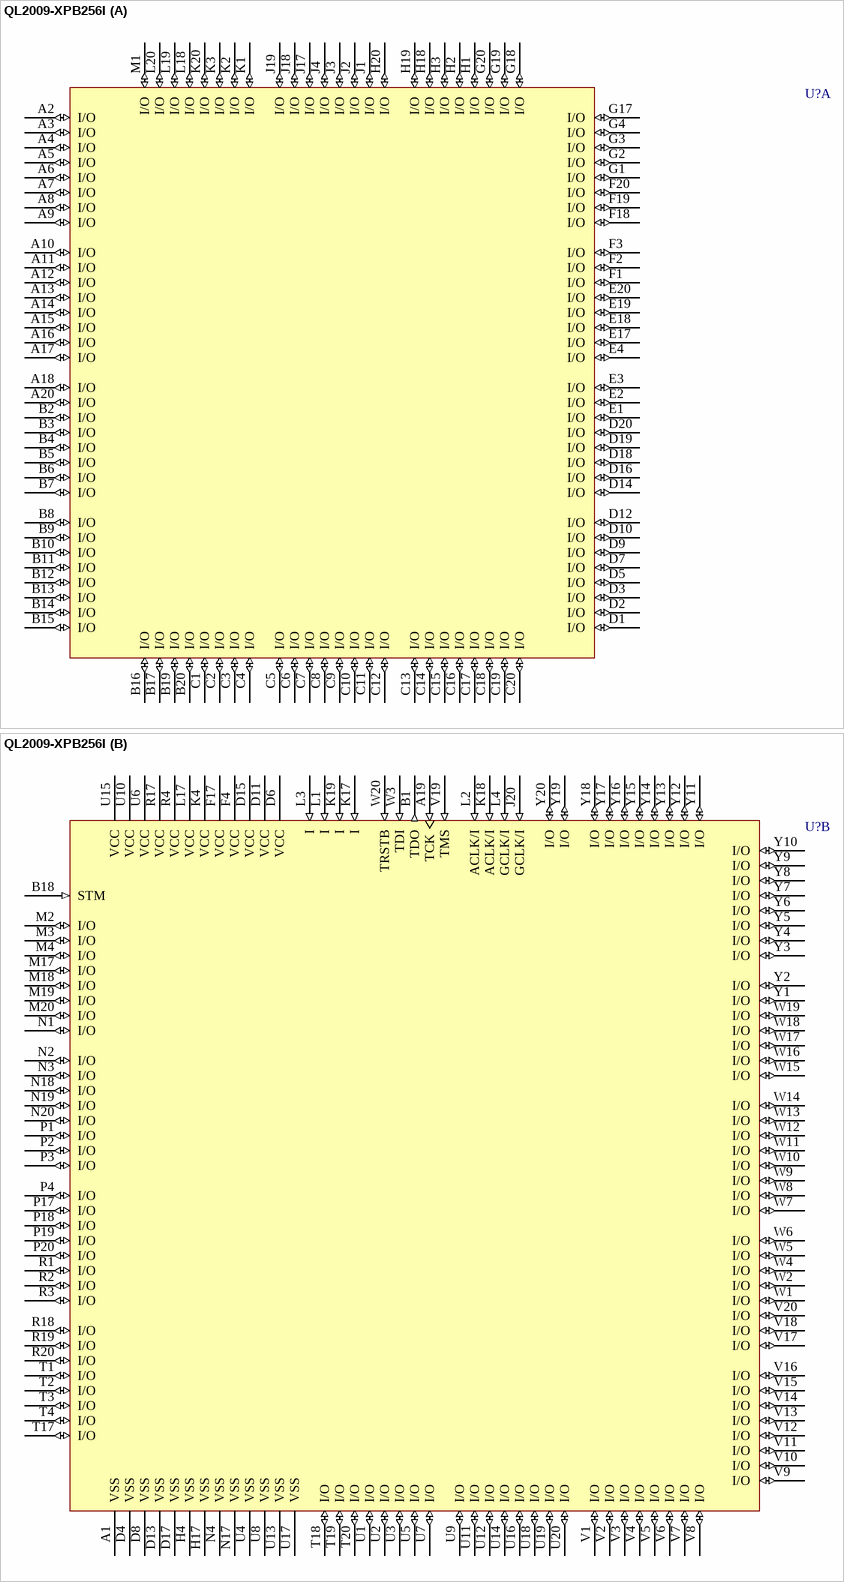
[diagram p39: symbol QL2009-XPB256I]

## QL2009-XPB256I
designator U?
3.3V and 5.0V FPGA, 225 I/Os Max; Published: 21-May-2003; LatestRevisionDate: 13-Apr-2006; LatestRevisionNote: IPC-7351 Footprint Added.; DatasheetVersion: Rev. C; PackageVersion: Sep-2002; PackageReference: PB256; Publisher: Altium Limited; PackageDescription: 256-Ball Ball Grid Array 1.27 mm Pitch; ComponentLink1Description: Manufacturer Link; ComponentLink1URL: http://www.quicklogic.com/; ComponentLink2Description: Datasheet; ComponentLink2URL: http://www.quicklogic.com/images/QL2009_DS.pdf; ComponentLink3Description: Discontinuation Notice; ComponentLink3URL: http://www.quicklogic.com/images/EOL_Letter_General.pdf
footprint PB256 (BGA, 256-Leads, Body 27x27mm, Pitch 1.27mm)
3D model QL2009-PB256 (256-Ball Ball Grid Array 1.27 mm Pitch)
part A pins: A2 I/O (io), A3 I/O (io), A4 I/O (io), A5 I/O (io), A6 I/O (io), A7 I/O (io), A8 I/O (io), A9 I/O (io), A10 I/O (io), A11 I/O (io), A12 I/O (io), A13 I/O (io), A14 I/O (io), A15 I/O (io), A16 I/O (io), A17 I/O (io), A18 I/O (io), A20 I/O (io), B2 I/O (io), B3 I/O (io), B4 I/O (io), B5 I/O (io), B6 I/O (io), B7 I/O (io), B8 I/O (io), B9 I/O (io), B10 I/O (io), B11 I/O (io), B12 I/O (io), B13 I/O (io), B14 I/O (io), B15 I/O (io), B16 I/O (io), B17 I/O (io), B19 I/O (io), B20 I/O (io), C1 I/O (io), C2 I/O (io), C3 I/O (io), C4 I/O (io), C5 I/O (io), C6 I/O (io), C7 I/O (io), C8 I/O (io), C9 I/O (io), C10 I/O (io), C11 I/O (io), C12 I/O (io), C13 I/O (io), C14 I/O (io), C15 I/O (io), C16 I/O (io), C17 I/O (io), C18 I/O (io), C19 I/O (io), C20 I/O (io), D1 I/O (io), D2 I/O (io), D3 I/O (io), D5 I/O (io), D7 I/O (io), D9 I/O (io), D10 I/O (io), D12 I/O (io), D14 I/O (io), D16 I/O (io), D18 I/O (io), D19 I/O (io), D20 I/O (io), E1 I/O (io), E2 I/O (io), E3 I/O (io), E4 I/O (io), E17 I/O (io), E18 I/O (io), E19 I/O (io), E20 I/O (io), F1 I/O (io), F2 I/O (io), F3 I/O (io), F18 I/O (io), F19 I/O (io), F20 I/O (io), G1 I/O (io), G2 I/O (io), G3 I/O (io), G4 I/O (io), G17 I/O (io), G18 I/O (io), G19 I/O (io), G20 I/O (io), H1 I/O (io), H2 I/O (io), H3 I/O (io), H18 I/O (io), H19 I/O (io), H20 I/O (io), J1 I/O (io), J2 I/O (io), J3 I/O (io), J4 I/O (io), J17 I/O (io), J18 I/O (io), J19 I/O (io), K1 I/O (io), K2 I/O (io), K3 I/O (io), K20 I/O (io), L18 I/O (io), L19 I/O (io), L20 I/O (io), M1 I/O (io)
part B pins: A1 VSS (power), A19 TCK (in), B1 TDO (out), B18 STM (in), D4 VSS (power), D6 VCC (power), D8 VSS (power), D11 VCC (power), D13 VSS (power), D15 VCC (power), D17 VSS (power), F4 VCC (power), F17 VCC (power), H4 VSS (power), H17 VSS (power), J20 GCLK/I (in), K4 VCC (power), K17 I (in), K18 ACLK/I (in), K19 I (in), L1 I (in), L2 ACLK/I (in), L3 I (in), L4 GCLK/I (in), L17 VCC (power), M2 I/O (io), M3 I/O (io), M4 I/O (io), M17 I/O (io), M18 I/O (io), M19 I/O (io), M20 I/O (io), N1 I/O (io), N2 I/O (io), N3 I/O (io), N4 VSS (power), N17 VSS (power), N18 I/O (io), N19 I/O (io), N20 I/O (io), P1 I/O (io), P2 I/O (io), P3 I/O (io), P4 I/O (io), P17 I/O (io), P18 I/O (io), P19 I/O (io), P20 I/O (io), R1 I/O (io), R2 I/O (io), R3 I/O (io), R4 VCC (power), R17 VCC (power), R18 I/O (io), R19 I/O (io), R20 I/O (io), T1 I/O (io), T2 I/O (io), T3 I/O (io), T4 I/O (io), T17 I/O (io), T18 I/O (io), T19 I/O (io), T20 I/O (io), U1 I/O (io), U2 I/O (io), U3 I/O (io), U4 VSS (power), U5 I/O (io), U6 VCC (power), U7 I/O (io), U8 VSS (power), U9 I/O (io), U10 VCC (power), U11 I/O (io), U12 I/O (io), U13 VSS (power), U14 I/O (io), U15 VCC (power), U16 I/O (io), U17 VSS (power), U18 I/O (io), U19 I/O (io), U20 I/O (io), V1 I/O (io), V2 I/O (io), V3 I/O (io), V4 I/O (io), V5 I/O (io), V6 I/O (io), V7 I/O (io), V8 I/O (io), V9 I/O (io), V10 I/O (io), V11 I/O (io), V12 I/O (io), V13 I/O (io), V14 I/O (io), V15 I/O (io), V16 I/O (io), V17 I/O (io), V18 I/O (io), V19 TMS (in), V20 I/O (io), W1 I/O (io), W2 I/O (io), W3 TDI (in), W4 I/O (io), W5 I/O (io), W6 I/O (io), W7 I/O (io), W8 I/O (io), W9 I/O (io), W10 I/O (io), W11 I/O (io), W12 I/O (io), W13 I/O (io), W14 I/O (io), W15 I/O (io), W16 I/O (io), W17 I/O (io), W18 I/O (io), W19 I/O (io), W20 TRSTB (in), Y1 I/O (io), Y2 I/O (io), Y3 I/O (io), Y4 I/O (io), Y5 I/O (io), Y6 I/O (io), Y7 I/O (io), Y8 I/O (io), Y9 I/O (io), Y10 I/O (io), Y11 I/O (io), Y12 I/O (io), Y13 I/O (io), Y14 I/O (io), Y15 I/O (io), Y16 I/O (io), Y17 I/O (io), Y18 I/O (io), Y19 I/O (io), Y20 I/O (io)

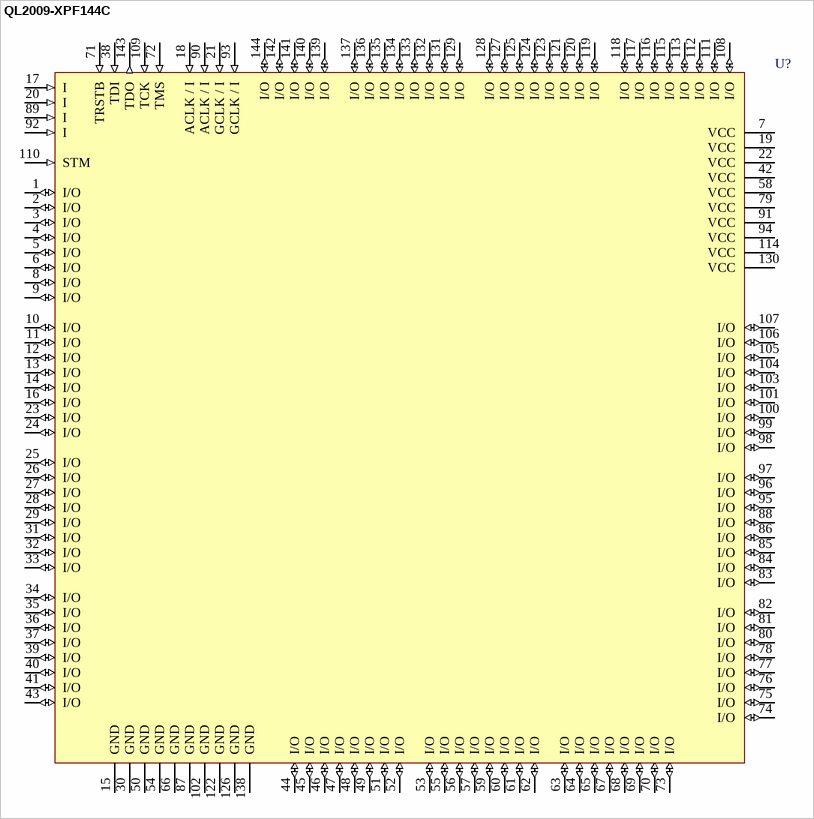
[diagram p40: symbol QL2009-XPF144C]

## QL2009-XPF144C
designator U?
3.3V and 5.0V FPGA, 118 I/Os Max; Published: 21-May-2003; LatestRevisionDate: 13-Apr-2006; LatestRevisionNote: IPC-7351 Footprint Added.; DatasheetVersion: Rev. C; PackageVersion: Feb-1992; PackageReference: PF144; Publisher: Altium Limited; PackageDescription: 144-Pin Thin Plastic Quad Flat Pack 0.5 mm Pitch; ComponentLink1Description: Manufacturer Link; ComponentLink1URL: http://www.quicklogic.com/; ComponentLink2Description: Datasheet; ComponentLink2URL: http://www.quicklogic.com/images/QL2009_DS.pdf; ComponentLink3Description: Discontinuation Notice; ComponentLink3URL: http://www.quicklogic.com/images/EOL_Letter_General.pdf
footprint PF144_N (Thin QFP, 144-Leads, Body 20x20mm, Pitch 0.5mm, IPC Medium Density)
footprint PF144_L (Thin QFP, 144-Leads, Body 20x20mm, Pitch 0.5mm, IPC High Density)
footprint PF144_M (Thin QFP, 144-Leads, Body 20x20mm, Pitch 0.5mm, IPC Low Density)
3D model QL2009-PF144 (144-Pin Thin Plastic Quad Flat Pack 0.5 mm Pitch)
pins: 1 I/O (io), 2 I/O (io), 3 I/O (io), 4 I/O (io), 5 I/O (io), 6 I/O (io), 7 VCC (power), 8 I/O (io), 9 I/O (io), 10 I/O (io), 11 I/O (io), 12 I/O (io), 13 I/O (io), 14 I/O (io), 15 GND (power), 16 I/O (io), 17 I (in), 18 ACLK / I (in), 19 VCC (power), 20 I (in), 21 GCLK / I (in), 22 VCC (power), 23 I/O (io), 24 I/O (io), 25 I/O (io), 26 I/O (io), 27 I/O (io), 28 I/O (io), 29 I/O (io), 30 GND (power), 31 I/O (io), 32 I/O (io), 33 I/O (io), 34 I/O (io), 35 I/O (io), 36 I/O (io), 37 I/O (io), 38 TDI (in), 39 I/O (io), 40 I/O (io), 41 I/O (io), 42 VCC (power), 43 I/O (io), 44 I/O (io), 45 I/O (io), 46 I/O (io), 47 I/O (io), 48 I/O (io), 49 I/O (io), 50 GND (power), 51 I/O (io), 52 I/O (io), 53 I/O (io), 54 GND (power), 55 I/O (io), 56 I/O (io), 57 I/O (io), 58 VCC (power), 59 I/O (io), 60 I/O (io), 61 I/O (io), 62 I/O (io), 63 I/O (io), 64 I/O (io), 65 I/O (io), 66 GND (power), 67 I/O (io), 68 I/O (io), 69 I/O (io), 70 I/O (io), 71 TRSTB (in), 72 TMS (in), 73 I/O (io), 74 I/O (io), 75 I/O (io), 76 I/O (io), 77 I/O (io), 78 I/O (io), 79 VCC (power), 80 I/O (io), 81 I/O (io), 82 I/O (io), 83 I/O (io), 84 I/O (io), 85 I/O (io), 86 I/O (io), 87 GND (power), 88 I/O (io), 89 I (in), 90 ACLK / I (in), 91 VCC (power), 92 I (in), 93 GCLK / I (in), 94 VCC (power), 95 I/O (io), 96 I/O (io), 97 I/O (io), 98 I/O (io), 99 I/O (io), 100 I/O (io), 101 I/O (io), 102 GND (power), 103 I/O (io), 104 I/O (io), 105 I/O (io), 106 I/O (io), 107 I/O (io), 108 I/O (io), 109 TCK (in), 110 STM (in), 111 I/O (io), 112 I/O (io), 113 I/O (io), 114 VCC (power), 115 I/O (io), 116 I/O (io), 117 I/O (io), 118 I/O (io), 119 I/O (io), 120 I/O (io), 121 I/O (io), 122 GND (power), 123 I/O (io), 124 I/O (io), 125 I/O (io), 126 GND (power), 127 I/O (io), 128 I/O (io), 129 I/O (io), 130 VCC (power), 131 I/O (io), 132 I/O (io), 133 I/O (io), 134 I/O (io), 135 I/O (io), 136 I/O (io), 137 I/O (io), 138 GND (power), 139 I/O (io), 140 I/O (io), 141 I/O (io), 142 I/O (io), 143 TDO (out), 144 I/O (io)

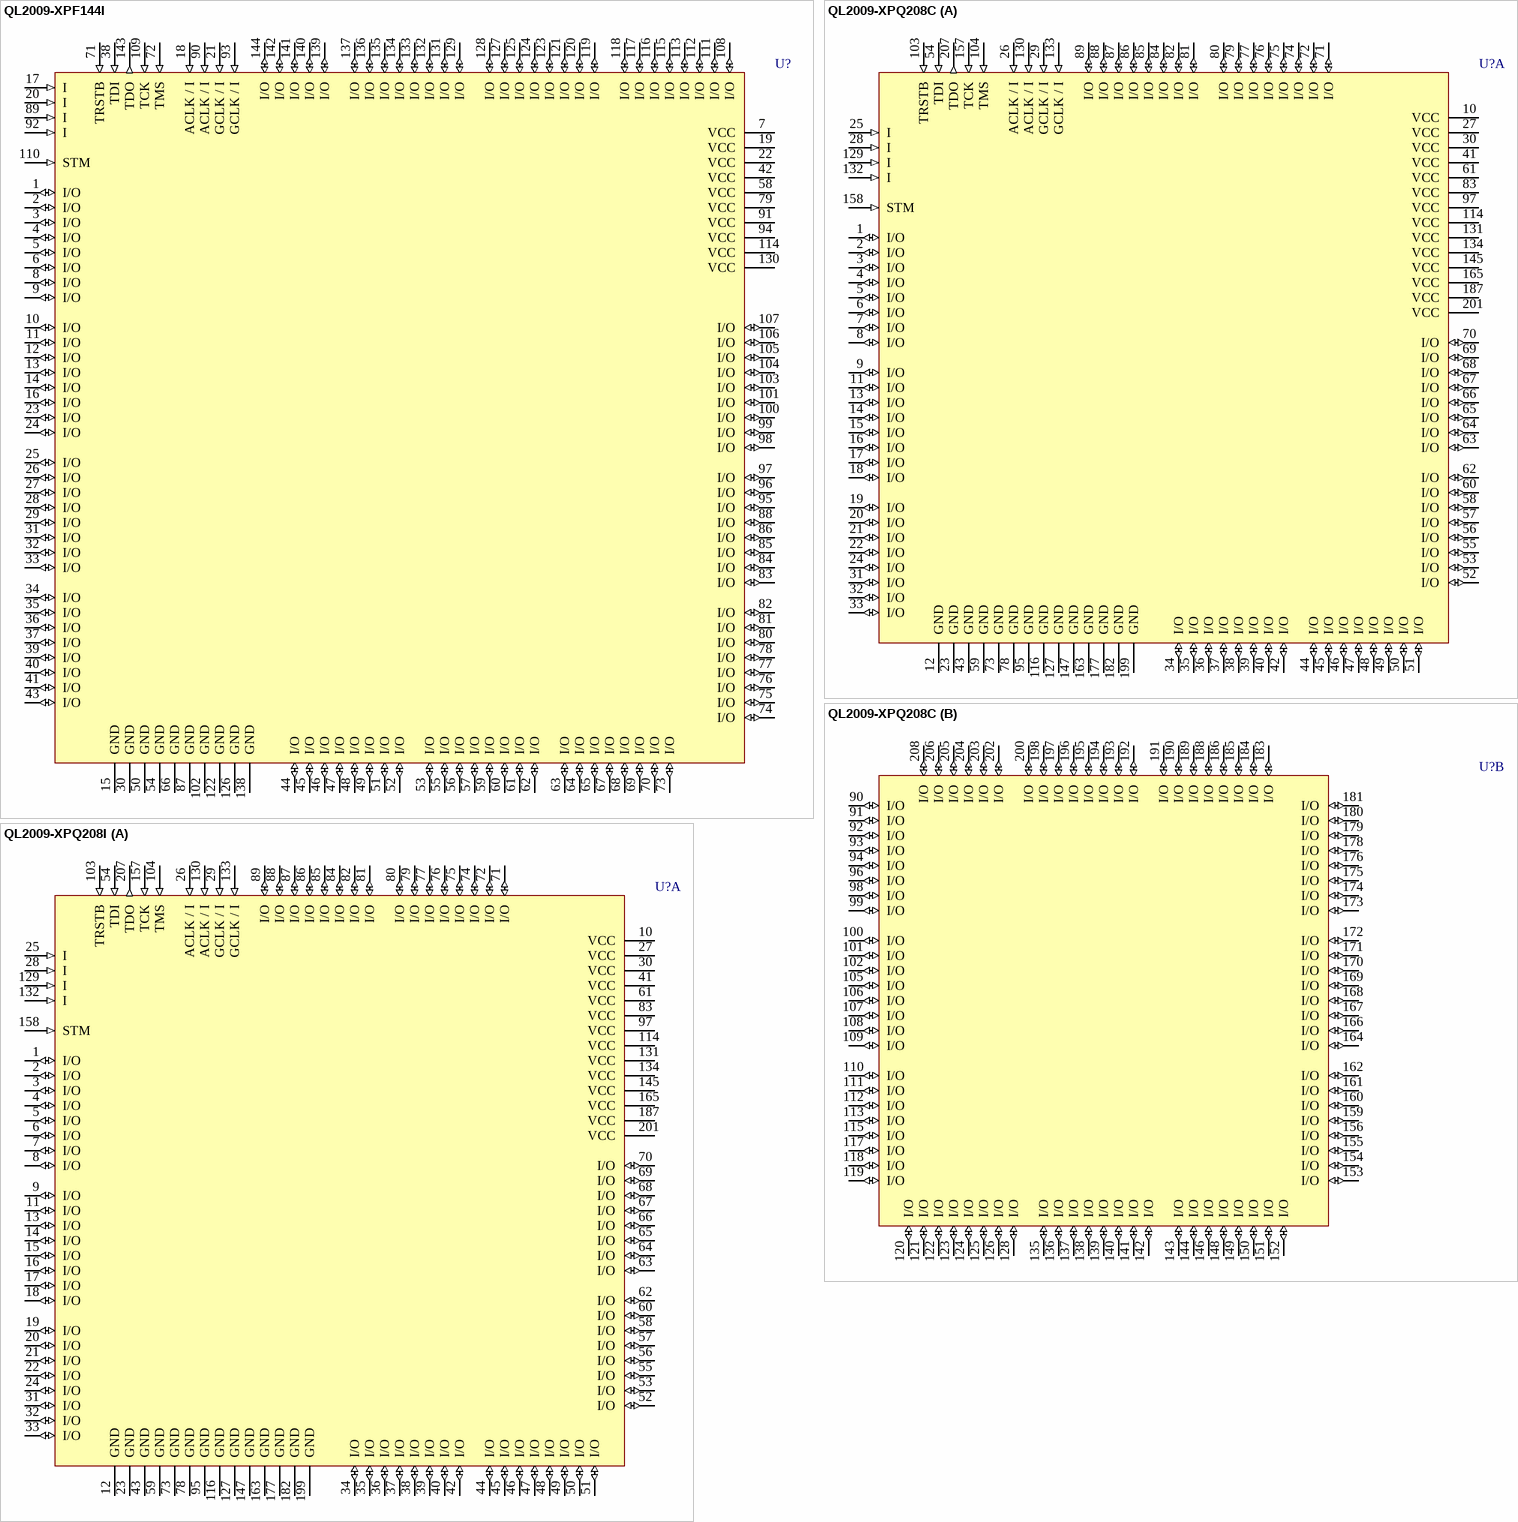
[diagram p41: symbols QL2009-XPF144I to QL2009-XPQ208I]

## QL2009-XPF144I
designator U?
3.3V and 5.0V FPGA, 118 I/Os Max; Published: 21-May-2003; LatestRevisionDate: 13-Apr-2006; LatestRevisionNote: IPC-7351 Footprint Added.; DatasheetVersion: Rev. C; PackageVersion: Feb-1992; PackageReference: PF144; Publisher: Altium Limited; PackageDescription: 144-Pin Thin Plastic Quad Flat Pack 0.5 mm Pitch; ComponentLink1Description: Manufacturer Link; ComponentLink1URL: http://www.quicklogic.com/; ComponentLink2Description: Datasheet; ComponentLink2URL: http://www.quicklogic.com/images/QL2009_DS.pdf; ComponentLink3Description: Discontinuation Notice; ComponentLink3URL: http://www.quicklogic.com/images/EOL_Letter_General.pdf
footprint PF144_N (Thin QFP, 144-Leads, Body 20x20mm, Pitch 0.5mm, IPC Medium Density)
footprint PF144_L (Thin QFP, 144-Leads, Body 20x20mm, Pitch 0.5mm, IPC High Density)
footprint PF144_M (Thin QFP, 144-Leads, Body 20x20mm, Pitch 0.5mm, IPC Low Density)
3D model QL2009-PF144 (144-Pin Thin Plastic Quad Flat Pack 0.5 mm Pitch)
pins: 1 I/O (io), 2 I/O (io), 3 I/O (io), 4 I/O (io), 5 I/O (io), 6 I/O (io), 7 VCC (power), 8 I/O (io), 9 I/O (io), 10 I/O (io), 11 I/O (io), 12 I/O (io), 13 I/O (io), 14 I/O (io), 15 GND (power), 16 I/O (io), 17 I (in), 18 ACLK / I (in), 19 VCC (power), 20 I (in), 21 GCLK / I (in), 22 VCC (power), 23 I/O (io), 24 I/O (io), 25 I/O (io), 26 I/O (io), 27 I/O (io), 28 I/O (io), 29 I/O (io), 30 GND (power), 31 I/O (io), 32 I/O (io), 33 I/O (io), 34 I/O (io), 35 I/O (io), 36 I/O (io), 37 I/O (io), 38 TDI (in), 39 I/O (io), 40 I/O (io), 41 I/O (io), 42 VCC (power), 43 I/O (io), 44 I/O (io), 45 I/O (io), 46 I/O (io), 47 I/O (io), 48 I/O (io), 49 I/O (io), 50 GND (power), 51 I/O (io), 52 I/O (io), 53 I/O (io), 54 GND (power), 55 I/O (io), 56 I/O (io), 57 I/O (io), 58 VCC (power), 59 I/O (io), 60 I/O (io), 61 I/O (io), 62 I/O (io), 63 I/O (io), 64 I/O (io), 65 I/O (io), 66 GND (power), 67 I/O (io), 68 I/O (io), 69 I/O (io), 70 I/O (io), 71 TRSTB (in), 72 TMS (in), 73 I/O (io), 74 I/O (io), 75 I/O (io), 76 I/O (io), 77 I/O (io), 78 I/O (io), 79 VCC (power), 80 I/O (io), 81 I/O (io), 82 I/O (io), 83 I/O (io), 84 I/O (io), 85 I/O (io), 86 I/O (io), 87 GND (power), 88 I/O (io), 89 I (in), 90 ACLK / I (in), 91 VCC (power), 92 I (in), 93 GCLK / I (in), 94 VCC (power), 95 I/O (io), 96 I/O (io), 97 I/O (io), 98 I/O (io), 99 I/O (io), 100 I/O (io), 101 I/O (io), 102 GND (power), 103 I/O (io), 104 I/O (io), 105 I/O (io), 106 I/O (io), 107 I/O (io), 108 I/O (io), 109 TCK (in), 110 STM (in), 111 I/O (io), 112 I/O (io), 113 I/O (io), 114 VCC (power), 115 I/O (io), 116 I/O (io), 117 I/O (io), 118 I/O (io), 119 I/O (io), 120 I/O (io), 121 I/O (io), 122 GND (power), 123 I/O (io), 124 I/O (io), 125 I/O (io), 126 GND (power), 127 I/O (io), 128 I/O (io), 129 I/O (io), 130 VCC (power), 131 I/O (io), 132 I/O (io), 133 I/O (io), 134 I/O (io), 135 I/O (io), 136 I/O (io), 137 I/O (io), 138 GND (power), 139 I/O (io), 140 I/O (io), 141 I/O (io), 142 I/O (io), 143 TDO (out), 144 I/O (io)